# Altium integrated library STMicroelectronics STM32 F4.IntLib: 22 symbols (part 1 of 5)
Pins are listed as number, name and electrical type; pins without a type are passive.

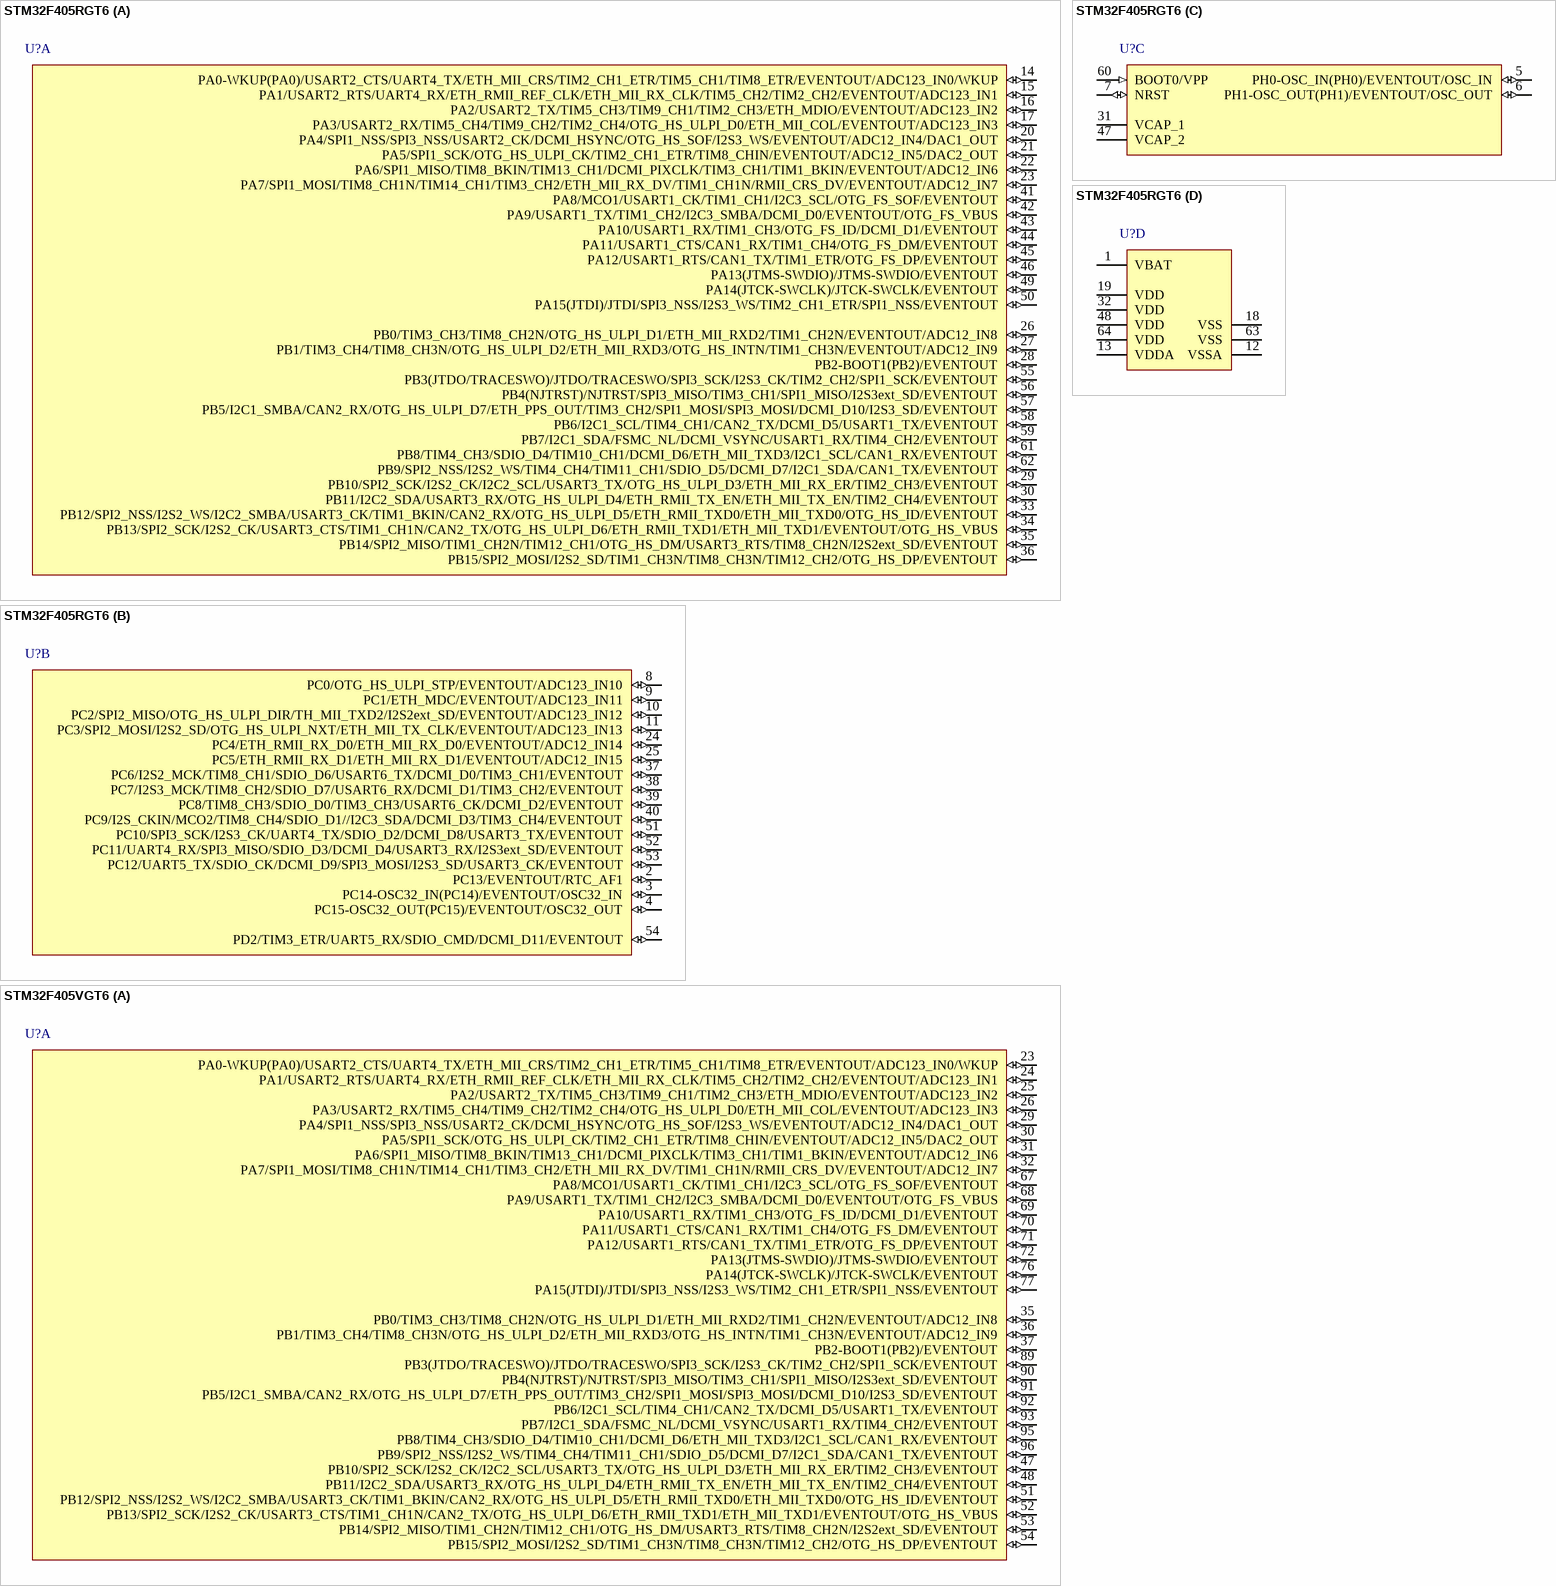
[diagram p0: symbols STM32F405RGT6 to STM32F405VGT6]

## STM32F405RGT6
designator U?
ARM Cortex-M4 32b MCU+FPU, 210DMIP, 1024 kB Flash, 192+4 kB RAM, 51 I/Os, 64-pin LQFP, -40 to +85°C, Tray; Internal RAM: 192kB; Operating Frequency (Processor Speed): 168MHz; A/D Converter: 16x12-bit; D/A Converter: 2x12-bit; 16-bit Timers (IC/OC/PWM): 12x16-bit(24/24/30); 32-bit Timer (IC/OC/PWM): 2x32-bit (8/8/8); Other Timer Functions: 2xWDG, RTC, 24-bit down counter; Serial Interface: 3xSPI/2xI2S/2xI2C/3xUSART(IrDa, ISO7816)/3xUART/1xUSB OTG FS/HS, 2xCAN/ SDIO; DatasheetVersion: rev2, Jan-2012; PackageVersion: 2012; PackageReference: TQFP64; PackageDescription: 64-Pin Low Profile Quad Flat Package, 10x10 mm Body, 0.5 mm Pitch; ComponentLink1Description: Manufacturer URL; ComponentLink1URL: http://www.st.com/; ComponentLink2Description: STM32F405/7 Datasheet; ComponentLink2URL: http://www.st.com/internet/com/TECHNICAL_RESOURCES/TECHNICAL_LITERATURE/DATASHEET/DM00037051.pdf; ComponentLink3Description: STM32F4 Web Page; ComponentLink3URL: http://www.st.com/internet/mcu/subclass/1521.jsp
footprint TQFP64_V (Thin QFP, 64-Leads, Body 10x10mm, Pitch 0.5mm, ST Recommended)
footprint TQFP64_N (Thin QFP, 64-Leads, Body 10x10mm, Pitch 0.5mm, IPC Medium Density)
footprint TQFP64_L (Thin QFP, 64-Leads, Body 10x10mm, Pitch 0.5mm, IPC High Density)
footprint TQFP64_M (Thin QFP, 64-Leads, Body 10x10mm, Pitch 0.5mm, IPC Low Density)
part A pins: 14 PA0-WKUP(PA0)/USART2_CTS/UART4_TX/ETH_MII_CRS/TIM2_CH1_ETR/TIM5_CH1/TIM8_ETR/EVENTOUT/ADC123_IN0/WKUP (io), 15 PA1/USART2_RTS/UART4_RX/ETH_RMII_REF_CLK/ETH_MII_RX_CLK/TIM5_CH2/TIM2_CH2/EVENTOUT/ADC123_IN1 (io), 16 PA2/USART2_TX/TIM5_CH3/TIM9_CH1/TIM2_CH3/ETH_MDIO/EVENTOUT/ADC123_IN2 (io), 17 PA3/USART2_RX/TIM5_CH4/TIM9_CH2/TIM2_CH4/OTG_HS_ULPI_D0/ETH_MII_COL/EVENTOUT/ADC123_IN3 (io), 20 PA4/SPI1_NSS/SPI3_NSS/USART2_CK/DCMI_HSYNC/OTG_HS_SOF/I2S3_WS/EVENTOUT/ADC12_IN4/DAC1_OUT (io), 21 PA5/SPI1_SCK/OTG_HS_ULPI_CK/TIM2_CH1_ETR/TIM8_CHIN/EVENTOUT/ADC12_IN5/DAC2_OUT (io), 22 PA6/SPI1_MISO/TIM8_BKIN/TIM13_CH1/DCMI_PIXCLK/TIM3_CH1/TIM1_BKIN/EVENTOUT/ADC12_IN6 (io), 23 PA7/SPI1_MOSI/TIM8_CH1N/TIM14_CH1/TIM3_CH2/ETH_MII_RX_DV/TIM1_CH1N/RMII_CRS_DV/EVENTOUT/ADC12_IN7 (io), 26 PB0/TIM3_CH3/TIM8_CH2N/OTG_HS_ULPI_D1/ETH_MII_RXD2/TIM1_CH2N/EVENTOUT/ADC12_IN8 (io), 27 PB1/TIM3_CH4/TIM8_CH3N/OTG_HS_ULPI_D2/ETH_MII_RXD3/OTG_HS_INTN/TIM1_CH3N/EVENTOUT/ADC12_IN9 (io), 28 PB2-BOOT1(PB2)/EVENTOUT (io), 29 PB10/SPI2_SCK/I2S2_CK/I2C2_SCL/USART3_TX/OTG_HS_ULPI_D3/ETH_MII_RX_ER/TIM2_CH3/EVENTOUT (io), 30 PB11/I2C2_SDA/USART3_RX/OTG_HS_ULPI_D4/ETH_RMII_TX_EN/ETH_MII_TX_EN/TIM2_CH4/EVENTOUT (io), 33 PB12/SPI2_NSS/I2S2_WS/I2C2_SMBA/USART3_CK/TIM1_BKIN/CAN2_RX/OTG_HS_ULPI_D5/ETH_RMII_TXD0/ETH_MII_TXD0/OTG_HS_ID/EVENTOUT (io), 34 PB13/SPI2_SCK/I2S2_CK/USART3_CTS/TIM1_CH1N/CAN2_TX/OTG_HS_ULPI_D6/ETH_RMII_TXD1/ETH_MII_TXD1/EVENTOUT/OTG_HS_VBUS (io), 35 PB14/SPI2_MISO/TIM1_CH2N/TIM12_CH1/OTG_HS_DM/USART3_RTS/TIM8_CH2N/I2S2ext_SD/EVENTOUT (io), 36 PB15/SPI2_MOSI/I2S2_SD/TIM1_CH3N/TIM8_CH3N/TIM12_CH2/OTG_HS_DP/EVENTOUT (io), 41 PA8/MCO1/USART1_CK/TIM1_CH1/I2C3_SCL/OTG_FS_SOF/EVENTOUT (io), 42 PA9/USART1_TX/TIM1_CH2/I2C3_SMBA/DCMI_D0/EVENTOUT/OTG_FS_VBUS (io), 43 PA10/USART1_RX/TIM1_CH3/OTG_FS_ID/DCMI_D1/EVENTOUT (io), 44 PA11/USART1_CTS/CAN1_RX/TIM1_CH4/OTG_FS_DM/EVENTOUT (io), 45 PA12/USART1_RTS/CAN1_TX/TIM1_ETR/OTG_FS_DP/EVENTOUT (io), 46 PA13(JTMS-SWDIO)/JTMS-SWDIO/EVENTOUT (io), 49 PA14(JTCK-SWCLK)/JTCK-SWCLK/EVENTOUT (io), 50 PA15(JTDI)/JTDI/SPI3_NSS/I2S3_WS/TIM2_CH1_ETR/SPI1_NSS/EVENTOUT (io), 55 PB3(JTDO/TRACESWO)/JTDO/TRACESWO/SPI3_SCK/I2S3_CK/TIM2_CH2/SPI1_SCK/EVENTOUT (io), 56 PB4(NJTRST)/NJTRST/SPI3_MISO/TIM3_CH1/SPI1_MISO/I2S3ext_SD/EVENTOUT (io), 57 PB5/I2C1_SMBA/CAN2_RX/OTG_HS_ULPI_D7/ETH_PPS_OUT/TIM3_CH2/SPI1_MOSI/SPI3_MOSI/DCMI_D10/I2S3_SD/EVENTOUT (io), 58 PB6/I2C1_SCL/TIM4_CH1/CAN2_TX/DCMI_D5/USART1_TX/EVENTOUT (io), 59 PB7/I2C1_SDA/FSMC_NL/DCMI_VSYNC/USART1_RX/TIM4_CH2/EVENTOUT (io), 61 PB8/TIM4_CH3/SDIO_D4/TIM10_CH1/DCMI_D6/ETH_MII_TXD3/I2C1_SCL/CAN1_RX/EVENTOUT (io), 62 PB9/SPI2_NSS/I2S2_WS/TIM4_CH4/TIM11_CH1/SDIO_D5/DCMI_D7/I2C1_SDA/CAN1_TX/EVENTOUT (io)
part B pins: 2 PC13/EVENTOUT/RTC_AF1 (io), 3 PC14-OSC32_IN(PC14)/EVENTOUT/OSC32_IN (io), 4 PC15-OSC32_OUT(PC15)/EVENTOUT/OSC32_OUT (io), 8 PC0/OTG_HS_ULPI_STP/EVENTOUT/ADC123_IN10 (io), 9 PC1/ETH_MDC/EVENTOUT/ADC123_IN11 (io), 10 PC2/SPI2_MISO/OTG_HS_ULPI_DIR/TH_MII_TXD2/I2S2ext_SD/EVENTOUT/ADC123_IN12 (io), 11 PC3/SPI2_MOSI/I2S2_SD/OTG_HS_ULPI_NXT/ETH_MII_TX_CLK/EVENTOUT/ADC123_IN13 (io), 24 PC4/ETH_RMII_RX_D0/ETH_MII_RX_D0/EVENTOUT/ADC12_IN14 (io), 25 PC5/ETH_RMII_RX_D1/ETH_MII_RX_D1/EVENTOUT/ADC12_IN15 (io), 37 PC6/I2S2_MCK/TIM8_CH1/SDIO_D6/USART6_TX/DCMI_D0/TIM3_CH1/EVENTOUT (io), 38 PC7/I2S3_MCK/TIM8_CH2/SDIO_D7/USART6_RX/DCMI_D1/TIM3_CH2/EVENTOUT (io), 39 PC8/TIM8_CH3/SDIO_D0/TIM3_CH3/USART6_CK/DCMI_D2/EVENTOUT (io), 40 PC9/I2S_CKIN/MCO2/TIM8_CH4/SDIO_D1//I2C3_SDA/DCMI_D3/TIM3_CH4/EVENTOUT (io), 51 PC10/SPI3_SCK/I2S3_CK/UART4_TX/SDIO_D2/DCMI_D8/USART3_TX/EVENTOUT (io), 52 PC11/UART4_RX/SPI3_MISO/SDIO_D3/DCMI_D4/USART3_RX/I2S3ext_SD/EVENTOUT (io), 53 PC12/UART5_TX/SDIO_CK/DCMI_D9/SPI3_MOSI/I2S3_SD/USART3_CK/EVENTOUT (io), 54 PD2/TIM3_ETR/UART5_RX/SDIO_CMD/DCMI_D11/EVENTOUT (io)
part C pins: 5 PH0-OSC_IN(PH0)/EVENTOUT/OSC_IN (io), 6 PH1-OSC_OUT(PH1)/EVENTOUT/OSC_OUT (io), 7 NRST (io), 31 VCAP_1 (power), 47 VCAP_2 (power), 60 BOOT0/VPP (in)
part D pins: 1 VBAT (power), 12 VSSA (power), 13 VDDA (power), 18 VSS (power), 19 VDD (power), 32 VDD (power), 48 VDD (power), 63 VSS (power), 64 VDD (power)

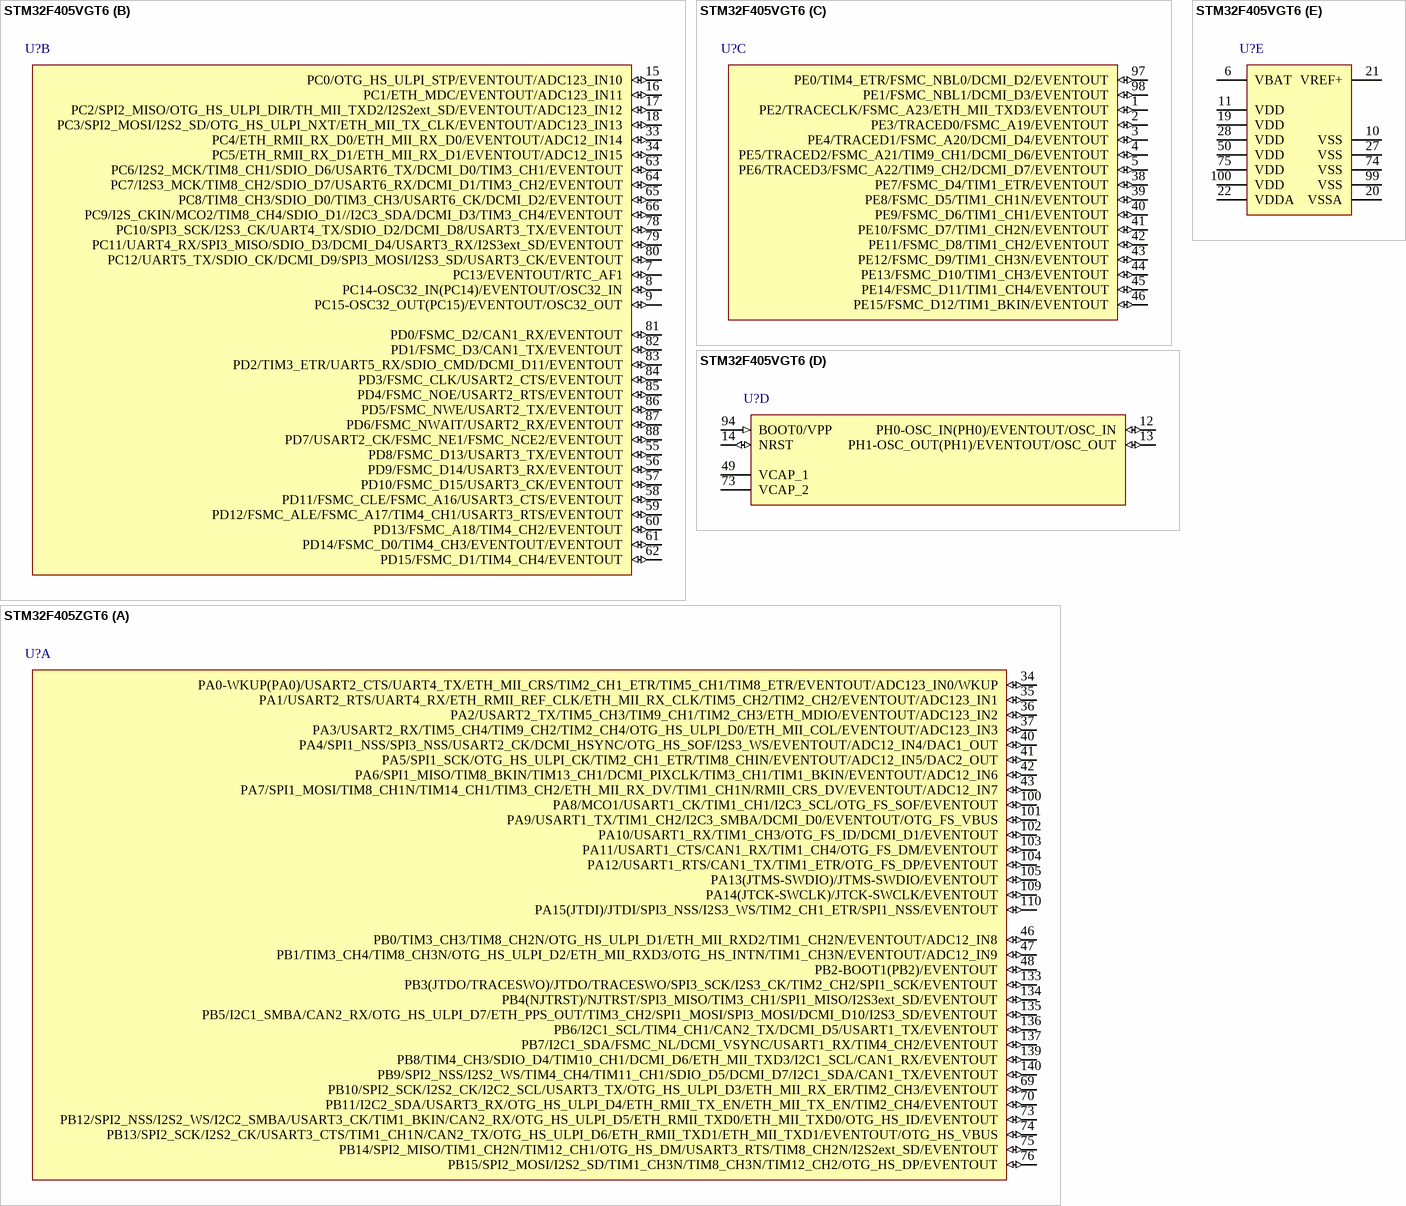
[diagram p1: symbols STM32F405VGT6 to STM32F405ZGT6]

## STM32F405VGT6
designator U?
ARM Cortex-M4 32b MCU+FPU, 210DMIP, 1024 kB Flash, 192+4 kB RAM, 82 I/Os, 100-pin LQFP, -40 to +85°C, Tray; Internal RAM: 192kB; Operating Frequency (Processor Speed): 168MHz; A/D Converter: 16x12-bit; D/A Converter: 2x12-bit; 16-bit Timers (IC/OC/PWM): 12x16-bit(24/24/30); 32-bit Timer (IC/OC/PWM): 2x32-bit (8/8/8); Other Timer Functions: 2xWDG, RTC, 24-bit down counter; Serial Interface: 3xSPI/2xI2S/2xI2C/3xUSART(IrDa, ISO7816)/3xUART/1xUSB OTG FS/HS, 2xCAN/ SDIO; DatasheetVersion: rev2, Jan-2012; PackageVersion: 2012; PackageReference: LQFP100; PackageDescription: 100-Pin Low Profile Quad Flat Package, 14x14 mm Body, 0.5 mm Pitch; ComponentLink1Description: Manufacturer URL; ComponentLink1URL: http://www.st.com/; ComponentLink2Description: STM32F405/7 Datasheet; ComponentLink2URL: http://www.st.com/internet/com/TECHNICAL_RESOURCES/TECHNICAL_LITERATURE/DATASHEET/DM00037051.pdf; ComponentLink3Description: STM32F4 Web Page; ComponentLink3URL: http://www.st.com/internet/mcu/subclass/1521.jsp
footprint LQFP100_V (Thin QFP, 100-Leads, Body 14x14mm, Pitch 0.5mm, ST Recommended)
footprint LQFP100_N (Thin QFP, 100-Leads, Body 14x14mm, Pitch 0.5mm, IPC Medium Density)
footprint LQFP100_L (Thin QFP, 100-Leads, Body 14x14mm, Pitch 0.5mm, IPC High Density)
footprint LQFP100_M (Thin QFP, 100-Leads, Body 14x14mm, Pitch 0.5mm, IPC Low Density)
part A pins: 23 PA0-WKUP(PA0)/USART2_CTS/UART4_TX/ETH_MII_CRS/TIM2_CH1_ETR/TIM5_CH1/TIM8_ETR/EVENTOUT/ADC123_IN0/WKUP (io), 24 PA1/USART2_RTS/UART4_RX/ETH_RMII_REF_CLK/ETH_MII_RX_CLK/TIM5_CH2/TIM2_CH2/EVENTOUT/ADC123_IN1 (io), 25 PA2/USART2_TX/TIM5_CH3/TIM9_CH1/TIM2_CH3/ETH_MDIO/EVENTOUT/ADC123_IN2 (io), 26 PA3/USART2_RX/TIM5_CH4/TIM9_CH2/TIM2_CH4/OTG_HS_ULPI_D0/ETH_MII_COL/EVENTOUT/ADC123_IN3 (io), 29 PA4/SPI1_NSS/SPI3_NSS/USART2_CK/DCMI_HSYNC/OTG_HS_SOF/I2S3_WS/EVENTOUT/ADC12_IN4/DAC1_OUT (io), 30 PA5/SPI1_SCK/OTG_HS_ULPI_CK/TIM2_CH1_ETR/TIM8_CHIN/EVENTOUT/ADC12_IN5/DAC2_OUT (io), 31 PA6/SPI1_MISO/TIM8_BKIN/TIM13_CH1/DCMI_PIXCLK/TIM3_CH1/TIM1_BKIN/EVENTOUT/ADC12_IN6 (io), 32 PA7/SPI1_MOSI/TIM8_CH1N/TIM14_CH1/TIM3_CH2/ETH_MII_RX_DV/TIM1_CH1N/RMII_CRS_DV/EVENTOUT/ADC12_IN7 (io), 35 PB0/TIM3_CH3/TIM8_CH2N/OTG_HS_ULPI_D1/ETH_MII_RXD2/TIM1_CH2N/EVENTOUT/ADC12_IN8 (io), 36 PB1/TIM3_CH4/TIM8_CH3N/OTG_HS_ULPI_D2/ETH_MII_RXD3/OTG_HS_INTN/TIM1_CH3N/EVENTOUT/ADC12_IN9 (io), 37 PB2-BOOT1(PB2)/EVENTOUT (io), 47 PB10/SPI2_SCK/I2S2_CK/I2C2_SCL/USART3_TX/OTG_HS_ULPI_D3/ETH_MII_RX_ER/TIM2_CH3/EVENTOUT (io), 48 PB11/I2C2_SDA/USART3_RX/OTG_HS_ULPI_D4/ETH_RMII_TX_EN/ETH_MII_TX_EN/TIM2_CH4/EVENTOUT (io), 51 PB12/SPI2_NSS/I2S2_WS/I2C2_SMBA/USART3_CK/TIM1_BKIN/CAN2_RX/OTG_HS_ULPI_D5/ETH_RMII_TXD0/ETH_MII_TXD0/OTG_HS_ID/EVENTOUT (io), 52 PB13/SPI2_SCK/I2S2_CK/USART3_CTS/TIM1_CH1N/CAN2_TX/OTG_HS_ULPI_D6/ETH_RMII_TXD1/ETH_MII_TXD1/EVENTOUT/OTG_HS_VBUS (io), 53 PB14/SPI2_MISO/TIM1_CH2N/TIM12_CH1/OTG_HS_DM/USART3_RTS/TIM8_CH2N/I2S2ext_SD/EVENTOUT (io), 54 PB15/SPI2_MOSI/I2S2_SD/TIM1_CH3N/TIM8_CH3N/TIM12_CH2/OTG_HS_DP/EVENTOUT (io), 67 PA8/MCO1/USART1_CK/TIM1_CH1/I2C3_SCL/OTG_FS_SOF/EVENTOUT (io), 68 PA9/USART1_TX/TIM1_CH2/I2C3_SMBA/DCMI_D0/EVENTOUT/OTG_FS_VBUS (io), 69 PA10/USART1_RX/TIM1_CH3/OTG_FS_ID/DCMI_D1/EVENTOUT (io), 70 PA11/USART1_CTS/CAN1_RX/TIM1_CH4/OTG_FS_DM/EVENTOUT (io), 71 PA12/USART1_RTS/CAN1_TX/TIM1_ETR/OTG_FS_DP/EVENTOUT (io), 72 PA13(JTMS-SWDIO)/JTMS-SWDIO/EVENTOUT (io), 76 PA14(JTCK-SWCLK)/JTCK-SWCLK/EVENTOUT (io), 77 PA15(JTDI)/JTDI/SPI3_NSS/I2S3_WS/TIM2_CH1_ETR/SPI1_NSS/EVENTOUT (io), 89 PB3(JTDO/TRACESWO)/JTDO/TRACESWO/SPI3_SCK/I2S3_CK/TIM2_CH2/SPI1_SCK/EVENTOUT (io), 90 PB4(NJTRST)/NJTRST/SPI3_MISO/TIM3_CH1/SPI1_MISO/I2S3ext_SD/EVENTOUT (io), 91 PB5/I2C1_SMBA/CAN2_RX/OTG_HS_ULPI_D7/ETH_PPS_OUT/TIM3_CH2/SPI1_MOSI/SPI3_MOSI/DCMI_D10/I2S3_SD/EVENTOUT (io), 92 PB6/I2C1_SCL/TIM4_CH1/CAN2_TX/DCMI_D5/USART1_TX/EVENTOUT (io), 93 PB7/I2C1_SDA/FSMC_NL/DCMI_VSYNC/USART1_RX/TIM4_CH2/EVENTOUT (io), 95 PB8/TIM4_CH3/SDIO_D4/TIM10_CH1/DCMI_D6/ETH_MII_TXD3/I2C1_SCL/CAN1_RX/EVENTOUT (io), 96 PB9/SPI2_NSS/I2S2_WS/TIM4_CH4/TIM11_CH1/SDIO_D5/DCMI_D7/I2C1_SDA/CAN1_TX/EVENTOUT (io)
part B pins: 7 PC13/EVENTOUT/RTC_AF1 (io), 8 PC14-OSC32_IN(PC14)/EVENTOUT/OSC32_IN (io), 9 PC15-OSC32_OUT(PC15)/EVENTOUT/OSC32_OUT (io), 15 PC0/OTG_HS_ULPI_STP/EVENTOUT/ADC123_IN10 (io), 16 PC1/ETH_MDC/EVENTOUT/ADC123_IN11 (io), 17 PC2/SPI2_MISO/OTG_HS_ULPI_DIR/TH_MII_TXD2/I2S2ext_SD/EVENTOUT/ADC123_IN12 (io), 18 PC3/SPI2_MOSI/I2S2_SD/OTG_HS_ULPI_NXT/ETH_MII_TX_CLK/EVENTOUT/ADC123_IN13 (io), 33 PC4/ETH_RMII_RX_D0/ETH_MII_RX_D0/EVENTOUT/ADC12_IN14 (io), 34 PC5/ETH_RMII_RX_D1/ETH_MII_RX_D1/EVENTOUT/ADC12_IN15 (io), 55 PD8/FSMC_D13/USART3_TX/EVENTOUT (io), 56 PD9/FSMC_D14/USART3_RX/EVENTOUT (io), 57 PD10/FSMC_D15/USART3_CK/EVENTOUT (io), 58 PD11/FSMC_CLE/FSMC_A16/USART3_CTS/EVENTOUT (io), 59 PD12/FSMC_ALE/FSMC_A17/TIM4_CH1/USART3_RTS/EVENTOUT (io), 60 PD13/FSMC_A18/TIM4_CH2/EVENTOUT (io), 61 PD14/FSMC_D0/TIM4_CH3/EVENTOUT/EVENTOUT (io), 62 PD15/FSMC_D1/TIM4_CH4/EVENTOUT (io), 63 PC6/I2S2_MCK/TIM8_CH1/SDIO_D6/USART6_TX/DCMI_D0/TIM3_CH1/EVENTOUT (io), 64 PC7/I2S3_MCK/TIM8_CH2/SDIO_D7/USART6_RX/DCMI_D1/TIM3_CH2/EVENTOUT (io), 65 PC8/TIM8_CH3/SDIO_D0/TIM3_CH3/USART6_CK/DCMI_D2/EVENTOUT (io), 66 PC9/I2S_CKIN/MCO2/TIM8_CH4/SDIO_D1//I2C3_SDA/DCMI_D3/TIM3_CH4/EVENTOUT (io), 78 PC10/SPI3_SCK/I2S3_CK/UART4_TX/SDIO_D2/DCMI_D8/USART3_TX/EVENTOUT (io), 79 PC11/UART4_RX/SPI3_MISO/SDIO_D3/DCMI_D4/USART3_RX/I2S3ext_SD/EVENTOUT (io), 80 PC12/UART5_TX/SDIO_CK/DCMI_D9/SPI3_MOSI/I2S3_SD/USART3_CK/EVENTOUT (io), 81 PD0/FSMC_D2/CAN1_RX/EVENTOUT (io), 82 PD1/FSMC_D3/CAN1_TX/EVENTOUT (io), 83 PD2/TIM3_ETR/UART5_RX/SDIO_CMD/DCMI_D11/EVENTOUT (io), 84 PD3/FSMC_CLK/USART2_CTS/EVENTOUT (io), 85 PD4/FSMC_NOE/USART2_RTS/EVENTOUT (io), 86 PD5/FSMC_NWE/USART2_TX/EVENTOUT (io), 87 PD6/FSMC_NWAIT/USART2_RX/EVENTOUT (io), 88 PD7/USART2_CK/FSMC_NE1/FSMC_NCE2/EVENTOUT (io)
part C pins: 1 PE2/TRACECLK/FSMC_A23/ETH_MII_TXD3/EVENTOUT (io), 2 PE3/TRACED0/FSMC_A19/EVENTOUT (io), 3 PE4/TRACED1/FSMC_A20/DCMI_D4/EVENTOUT (io), 4 PE5/TRACED2/FSMC_A21/TIM9_CH1/DCMI_D6/EVENTOUT (io), 5 PE6/TRACED3/FSMC_A22/TIM9_CH2/DCMI_D7/EVENTOUT (io), 38 PE7/FSMC_D4/TIM1_ETR/EVENTOUT (io), 39 PE8/FSMC_D5/TIM1_CH1N/EVENTOUT (io), 40 PE9/FSMC_D6/TIM1_CH1/EVENTOUT (io), 41 PE10/FSMC_D7/TIM1_CH2N/EVENTOUT (io), 42 PE11/FSMC_D8/TIM1_CH2/EVENTOUT (io), 43 PE12/FSMC_D9/TIM1_CH3N/EVENTOUT (io), 44 PE13/FSMC_D10/TIM1_CH3/EVENTOUT (io), 45 PE14/FSMC_D11/TIM1_CH4/EVENTOUT (io), 46 PE15/FSMC_D12/TIM1_BKIN/EVENTOUT (io), 97 PE0/TIM4_ETR/FSMC_NBL0/DCMI_D2/EVENTOUT (io), 98 PE1/FSMC_NBL1/DCMI_D3/EVENTOUT (io)
part D pins: 12 PH0-OSC_IN(PH0)/EVENTOUT/OSC_IN (io), 13 PH1-OSC_OUT(PH1)/EVENTOUT/OSC_OUT (io), 14 NRST (io), 49 VCAP_1 (power), 73 VCAP_2 (power), 94 BOOT0/VPP (in)
part E pins: 6 VBAT (power), 10 VSS (power), 11 VDD (power), 19 VDD (power), 20 VSSA (power), 21 VREF+ (power), 22 VDDA (power), 27 VSS (power), 28 VDD (power), 50 VDD (power), 74 VSS (power), 75 VDD (power), 99 VSS (power), 100 VDD (power)

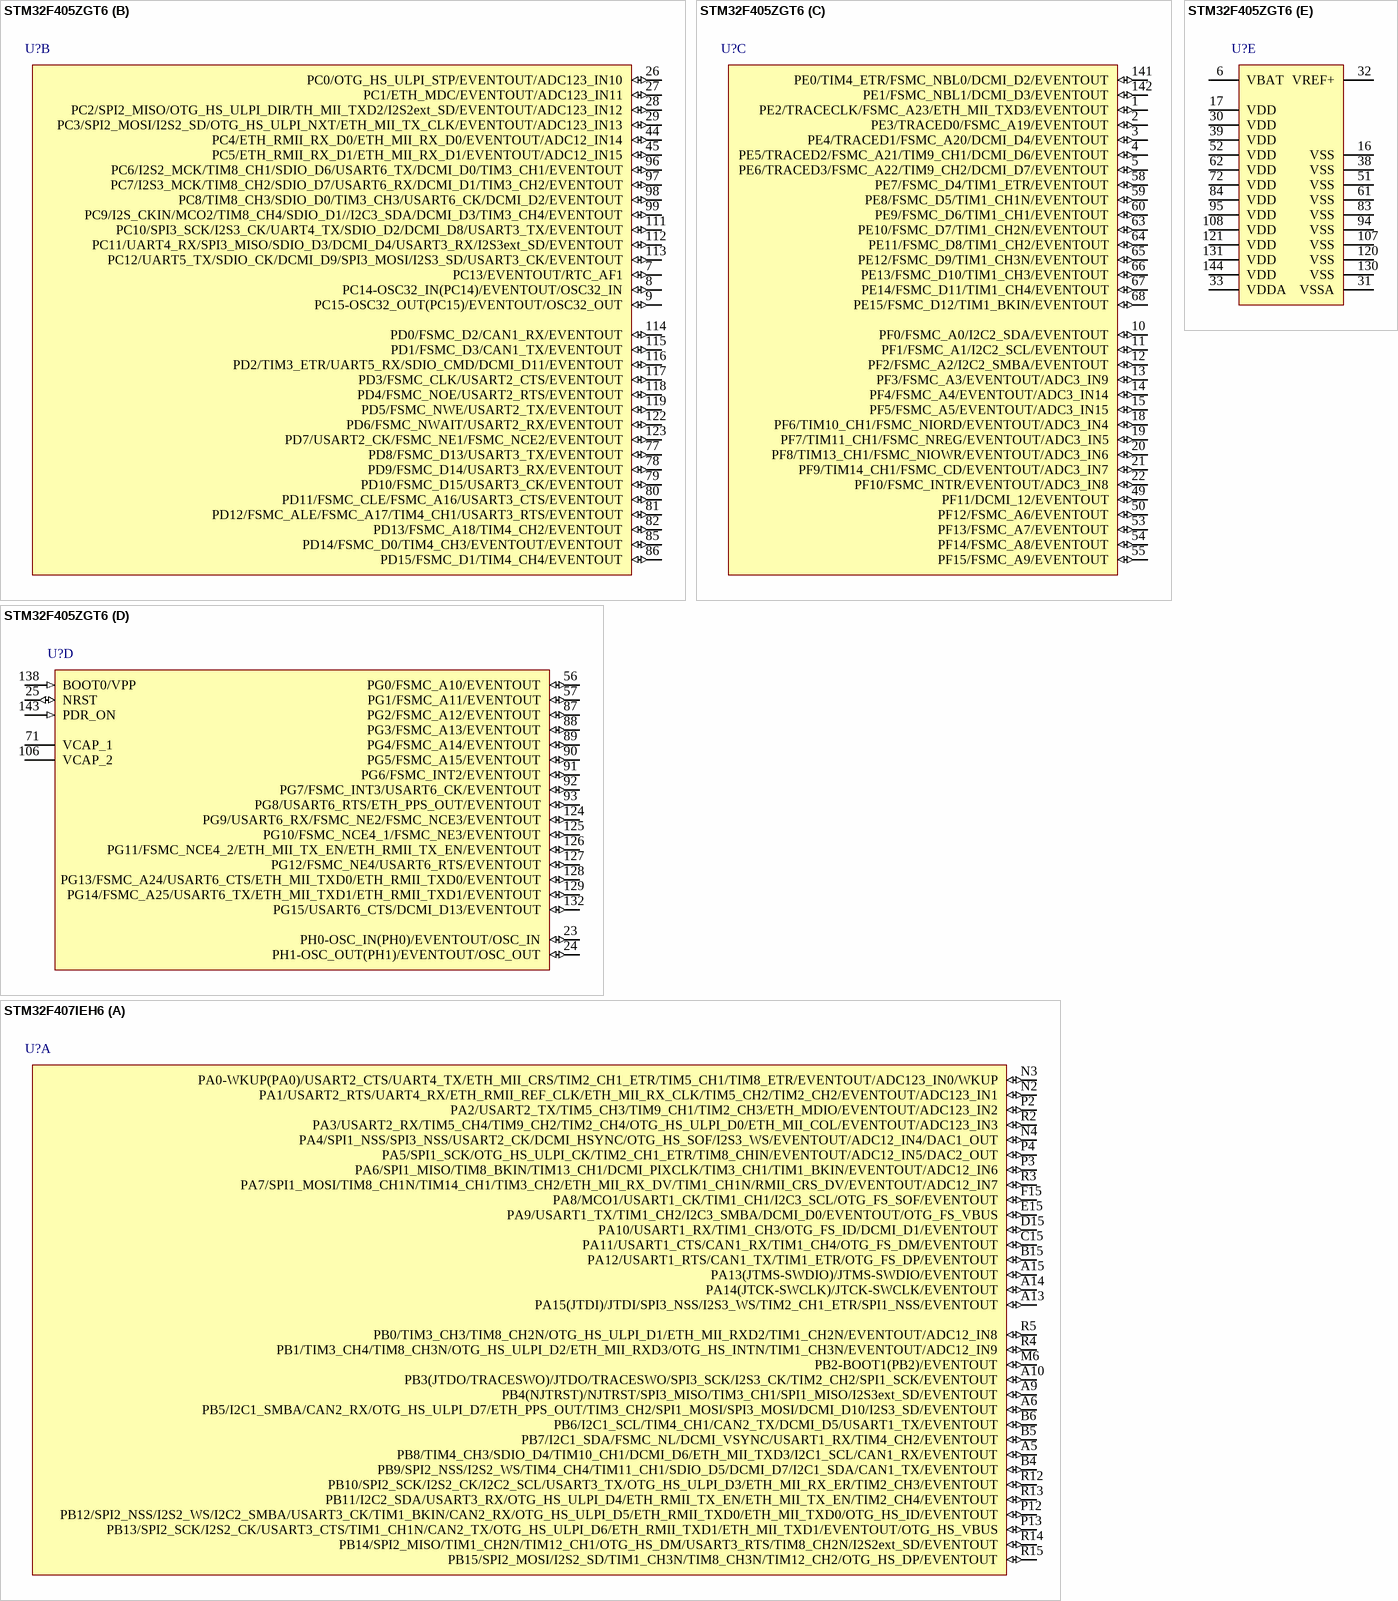
[diagram p2: symbols STM32F405ZGT6 to STM32F407IEH6]

## STM32F405ZGT6
designator U?
ARM Cortex-M4 32b MCU+FPU, 210DMIP, 1024 kB Flash, 192+4 kB RAM, 114 I/Os, 144-pin LQFP, -40 to +85°C, Tray; Internal RAM: 192kB; Operating Frequency (Processor Speed): 168MHz; A/D Converter: 24x12-bit; D/A Converter: 2x12-bit; 16-bit Timers (IC/OC/PWM): 12x16-bit(24/24/30); 32-bit Timer (IC/OC/PWM): 2x32-bit (8/8/8); Other Timer Functions: 2xWDG, RTC, 24-bit down counter; Serial Interface: 3xSPi/2xI2S/2xI2C/3xUSART/1xUSB OTG FS/HS, 2xCAN/ SDIO; DatasheetVersion: rev2, Jan-2012; PackageVersion: 2012; PackageReference: TQFP144; PackageDescription: 144-Pin Low Profile Quad Flat Package, 20x20 mm Body, 0.5 mm Pitch; ComponentLink1Description: Manufacturer URL; ComponentLink1URL: http://www.st.com/; ComponentLink2Description: STM32F405/7 Datasheet; ComponentLink2URL: http://www.st.com/internet/com/TECHNICAL_RESOURCES/TECHNICAL_LITERATURE/DATASHEET/DM00037051.pdf; ComponentLink3Description: STM32F4 Web Page; ComponentLink3URL: http://www.st.com/internet/mcu/subclass/1521.jsp
footprint TQFP144_V (Thin QFP, 144-Leads, Body 20x20mm, Pitch 0.5mm, ST Recommended)
footprint TQFP144_N (Thin QFP, 144-Leads, Body 20x20mm, Pitch 0.5mm, IPC Medium Density)
footprint TQFP144_L (Thin QFP, 144-Leads, Body 20x20mm, Pitch 0.5mm, IPC High Density)
footprint TQFP144_M (Thin QFP, 144-Leads, Body 20x20mm, Pitch 0.5mm, IPC Low Density)
part A pins: 34 PA0-WKUP(PA0)/USART2_CTS/UART4_TX/ETH_MII_CRS/TIM2_CH1_ETR/TIM5_CH1/TIM8_ETR/EVENTOUT/ADC123_IN0/WKUP (io), 35 PA1/USART2_RTS/UART4_RX/ETH_RMII_REF_CLK/ETH_MII_RX_CLK/TIM5_CH2/TIM2_CH2/EVENTOUT/ADC123_IN1 (io), 36 PA2/USART2_TX/TIM5_CH3/TIM9_CH1/TIM2_CH3/ETH_MDIO/EVENTOUT/ADC123_IN2 (io), 37 PA3/USART2_RX/TIM5_CH4/TIM9_CH2/TIM2_CH4/OTG_HS_ULPI_D0/ETH_MII_COL/EVENTOUT/ADC123_IN3 (io), 40 PA4/SPI1_NSS/SPI3_NSS/USART2_CK/DCMI_HSYNC/OTG_HS_SOF/I2S3_WS/EVENTOUT/ADC12_IN4/DAC1_OUT (io), 41 PA5/SPI1_SCK/OTG_HS_ULPI_CK/TIM2_CH1_ETR/TIM8_CHIN/EVENTOUT/ADC12_IN5/DAC2_OUT (io), 42 PA6/SPI1_MISO/TIM8_BKIN/TIM13_CH1/DCMI_PIXCLK/TIM3_CH1/TIM1_BKIN/EVENTOUT/ADC12_IN6 (io), 43 PA7/SPI1_MOSI/TIM8_CH1N/TIM14_CH1/TIM3_CH2/ETH_MII_RX_DV/TIM1_CH1N/RMII_CRS_DV/EVENTOUT/ADC12_IN7 (io), 46 PB0/TIM3_CH3/TIM8_CH2N/OTG_HS_ULPI_D1/ETH_MII_RXD2/TIM1_CH2N/EVENTOUT/ADC12_IN8 (io), 47 PB1/TIM3_CH4/TIM8_CH3N/OTG_HS_ULPI_D2/ETH_MII_RXD3/OTG_HS_INTN/TIM1_CH3N/EVENTOUT/ADC12_IN9 (io), 48 PB2-BOOT1(PB2)/EVENTOUT (io), 69 PB10/SPI2_SCK/I2S2_CK/I2C2_SCL/USART3_TX/OTG_HS_ULPI_D3/ETH_MII_RX_ER/TIM2_CH3/EVENTOUT (io), 70 PB11/I2C2_SDA/USART3_RX/OTG_HS_ULPI_D4/ETH_RMII_TX_EN/ETH_MII_TX_EN/TIM2_CH4/EVENTOUT (io), 73 PB12/SPI2_NSS/I2S2_WS/I2C2_SMBA/USART3_CK/TIM1_BKIN/CAN2_RX/OTG_HS_ULPI_D5/ETH_RMII_TXD0/ETH_MII_TXD0/OTG_HS_ID/EVENTOUT (io), 74 PB13/SPI2_SCK/I2S2_CK/USART3_CTS/TIM1_CH1N/CAN2_TX/OTG_HS_ULPI_D6/ETH_RMII_TXD1/ETH_MII_TXD1/EVENTOUT/OTG_HS_VBUS (io), 75 PB14/SPI2_MISO/TIM1_CH2N/TIM12_CH1/OTG_HS_DM/USART3_RTS/TIM8_CH2N/I2S2ext_SD/EVENTOUT (io), 76 PB15/SPI2_MOSI/I2S2_SD/TIM1_CH3N/TIM8_CH3N/TIM12_CH2/OTG_HS_DP/EVENTOUT (io), 100 PA8/MCO1/USART1_CK/TIM1_CH1/I2C3_SCL/OTG_FS_SOF/EVENTOUT (io), 101 PA9/USART1_TX/TIM1_CH2/I2C3_SMBA/DCMI_D0/EVENTOUT/OTG_FS_VBUS (io), 102 PA10/USART1_RX/TIM1_CH3/OTG_FS_ID/DCMI_D1/EVENTOUT (io), 103 PA11/USART1_CTS/CAN1_RX/TIM1_CH4/OTG_FS_DM/EVENTOUT (io), 104 PA12/USART1_RTS/CAN1_TX/TIM1_ETR/OTG_FS_DP/EVENTOUT (io), 105 PA13(JTMS-SWDIO)/JTMS-SWDIO/EVENTOUT (io), 109 PA14(JTCK-SWCLK)/JTCK-SWCLK/EVENTOUT (io), 110 PA15(JTDI)/JTDI/SPI3_NSS/I2S3_WS/TIM2_CH1_ETR/SPI1_NSS/EVENTOUT (io), 133 PB3(JTDO/TRACESWO)/JTDO/TRACESWO/SPI3_SCK/I2S3_CK/TIM2_CH2/SPI1_SCK/EVENTOUT (io), 134 PB4(NJTRST)/NJTRST/SPI3_MISO/TIM3_CH1/SPI1_MISO/I2S3ext_SD/EVENTOUT (io), 135 PB5/I2C1_SMBA/CAN2_RX/OTG_HS_ULPI_D7/ETH_PPS_OUT/TIM3_CH2/SPI1_MOSI/SPI3_MOSI/DCMI_D10/I2S3_SD/EVENTOUT (io), 136 PB6/I2C1_SCL/TIM4_CH1/CAN2_TX/DCMI_D5/USART1_TX/EVENTOUT (io), 137 PB7/I2C1_SDA/FSMC_NL/DCMI_VSYNC/USART1_RX/TIM4_CH2/EVENTOUT (io), 139 PB8/TIM4_CH3/SDIO_D4/TIM10_CH1/DCMI_D6/ETH_MII_TXD3/I2C1_SCL/CAN1_RX/EVENTOUT (io), 140 PB9/SPI2_NSS/I2S2_WS/TIM4_CH4/TIM11_CH1/SDIO_D5/DCMI_D7/I2C1_SDA/CAN1_TX/EVENTOUT (io)
part B pins: 7 PC13/EVENTOUT/RTC_AF1 (io), 8 PC14-OSC32_IN(PC14)/EVENTOUT/OSC32_IN (io), 9 PC15-OSC32_OUT(PC15)/EVENTOUT/OSC32_OUT (io), 26 PC0/OTG_HS_ULPI_STP/EVENTOUT/ADC123_IN10 (io), 27 PC1/ETH_MDC/EVENTOUT/ADC123_IN11 (io), 28 PC2/SPI2_MISO/OTG_HS_ULPI_DIR/TH_MII_TXD2/I2S2ext_SD/EVENTOUT/ADC123_IN12 (io), 29 PC3/SPI2_MOSI/I2S2_SD/OTG_HS_ULPI_NXT/ETH_MII_TX_CLK/EVENTOUT/ADC123_IN13 (io), 44 PC4/ETH_RMII_RX_D0/ETH_MII_RX_D0/EVENTOUT/ADC12_IN14 (io), 45 PC5/ETH_RMII_RX_D1/ETH_MII_RX_D1/EVENTOUT/ADC12_IN15 (io), 77 PD8/FSMC_D13/USART3_TX/EVENTOUT (io), 78 PD9/FSMC_D14/USART3_RX/EVENTOUT (io), 79 PD10/FSMC_D15/USART3_CK/EVENTOUT (io), 80 PD11/FSMC_CLE/FSMC_A16/USART3_CTS/EVENTOUT (io), 81 PD12/FSMC_ALE/FSMC_A17/TIM4_CH1/USART3_RTS/EVENTOUT (io), 82 PD13/FSMC_A18/TIM4_CH2/EVENTOUT (io), 85 PD14/FSMC_D0/TIM4_CH3/EVENTOUT/EVENTOUT (io), 86 PD15/FSMC_D1/TIM4_CH4/EVENTOUT (io), 96 PC6/I2S2_MCK/TIM8_CH1/SDIO_D6/USART6_TX/DCMI_D0/TIM3_CH1/EVENTOUT (io), 97 PC7/I2S3_MCK/TIM8_CH2/SDIO_D7/USART6_RX/DCMI_D1/TIM3_CH2/EVENTOUT (io), 98 PC8/TIM8_CH3/SDIO_D0/TIM3_CH3/USART6_CK/DCMI_D2/EVENTOUT (io), 99 PC9/I2S_CKIN/MCO2/TIM8_CH4/SDIO_D1//I2C3_SDA/DCMI_D3/TIM3_CH4/EVENTOUT (io), 111 PC10/SPI3_SCK/I2S3_CK/UART4_TX/SDIO_D2/DCMI_D8/USART3_TX/EVENTOUT (io), 112 PC11/UART4_RX/SPI3_MISO/SDIO_D3/DCMI_D4/USART3_RX/I2S3ext_SD/EVENTOUT (io), 113 PC12/UART5_TX/SDIO_CK/DCMI_D9/SPI3_MOSI/I2S3_SD/USART3_CK/EVENTOUT (io), 114 PD0/FSMC_D2/CAN1_RX/EVENTOUT (io), 115 PD1/FSMC_D3/CAN1_TX/EVENTOUT (io), 116 PD2/TIM3_ETR/UART5_RX/SDIO_CMD/DCMI_D11/EVENTOUT (io), 117 PD3/FSMC_CLK/USART2_CTS/EVENTOUT (io), 118 PD4/FSMC_NOE/USART2_RTS/EVENTOUT (io), 119 PD5/FSMC_NWE/USART2_TX/EVENTOUT (io), 122 PD6/FSMC_NWAIT/USART2_RX/EVENTOUT (io), 123 PD7/USART2_CK/FSMC_NE1/FSMC_NCE2/EVENTOUT (io)
part C pins: 1 PE2/TRACECLK/FSMC_A23/ETH_MII_TXD3/EVENTOUT (io), 2 PE3/TRACED0/FSMC_A19/EVENTOUT (io), 3 PE4/TRACED1/FSMC_A20/DCMI_D4/EVENTOUT (io), 4 PE5/TRACED2/FSMC_A21/TIM9_CH1/DCMI_D6/EVENTOUT (io), 5 PE6/TRACED3/FSMC_A22/TIM9_CH2/DCMI_D7/EVENTOUT (io), 10 PF0/FSMC_A0/I2C2_SDA/EVENTOUT (io), 11 PF1/FSMC_A1/I2C2_SCL/EVENTOUT (io), 12 PF2/FSMC_A2/I2C2_SMBA/EVENTOUT (io), 13 PF3/FSMC_A3/EVENTOUT/ADC3_IN9 (io), 14 PF4/FSMC_A4/EVENTOUT/ADC3_IN14 (io), 15 PF5/FSMC_A5/EVENTOUT/ADC3_IN15 (io), 18 PF6/TIM10_CH1/FSMC_NIORD/EVENTOUT/ADC3_IN4 (io), 19 PF7/TIM11_CH1/FSMC_NREG/EVENTOUT/ADC3_IN5 (io), 20 PF8/TIM13_CH1/FSMC_NIOWR/EVENTOUT/ADC3_IN6 (io), 21 PF9/TIM14_CH1/FSMC_CD/EVENTOUT/ADC3_IN7 (io), 22 PF10/FSMC_INTR/EVENTOUT/ADC3_IN8 (io), 49 PF11/DCMI_12/EVENTOUT (io), 50 PF12/FSMC_A6/EVENTOUT (io), 53 PF13/FSMC_A7/EVENTOUT (io), 54 PF14/FSMC_A8/EVENTOUT (io), 55 PF15/FSMC_A9/EVENTOUT (io), 58 PE7/FSMC_D4/TIM1_ETR/EVENTOUT (io), 59 PE8/FSMC_D5/TIM1_CH1N/EVENTOUT (io), 60 PE9/FSMC_D6/TIM1_CH1/EVENTOUT (io), 63 PE10/FSMC_D7/TIM1_CH2N/EVENTOUT (io), 64 PE11/FSMC_D8/TIM1_CH2/EVENTOUT (io), 65 PE12/FSMC_D9/TIM1_CH3N/EVENTOUT (io), 66 PE13/FSMC_D10/TIM1_CH3/EVENTOUT (io), 67 PE14/FSMC_D11/TIM1_CH4/EVENTOUT (io), 68 PE15/FSMC_D12/TIM1_BKIN/EVENTOUT (io), 141 PE0/TIM4_ETR/FSMC_NBL0/DCMI_D2/EVENTOUT (io), 142 PE1/FSMC_NBL1/DCMI_D3/EVENTOUT (io)
part D pins: 23 PH0-OSC_IN(PH0)/EVENTOUT/OSC_IN (io), 24 PH1-OSC_OUT(PH1)/EVENTOUT/OSC_OUT (io), 25 NRST (io), 56 PG0/FSMC_A10/EVENTOUT (io), 57 PG1/FSMC_A11/EVENTOUT (io), 71 VCAP_1 (power), 87 PG2/FSMC_A12/EVENTOUT (io), 88 PG3/FSMC_A13/EVENTOUT (io), 89 PG4/FSMC_A14/EVENTOUT (io), 90 PG5/FSMC_A15/EVENTOUT (io), 91 PG6/FSMC_INT2/EVENTOUT (io), 92 PG7/FSMC_INT3/USART6_CK/EVENTOUT (io), 93 PG8/USART6_RTS/ETH_PPS_OUT/EVENTOUT (io), 106 VCAP_2 (power), 124 PG9/USART6_RX/FSMC_NE2/FSMC_NCE3/EVENTOUT (io), 125 PG10/FSMC_NCE4_1/FSMC_NE3/EVENTOUT (io), 126 PG11/FSMC_NCE4_2/ETH_MII_TX_EN/ETH_RMII_TX_EN/EVENTOUT (io), 127 PG12/FSMC_NE4/USART6_RTS/EVENTOUT (io), 128 PG13/FSMC_A24/USART6_CTS/ETH_MII_TXD0/ETH_RMII_TXD0/EVENTOUT (io), 129 PG14/FSMC_A25/USART6_TX/ETH_MII_TXD1/ETH_RMII_TXD1/EVENTOUT (io), 132 PG15/USART6_CTS/DCMI_D13/EVENTOUT (io), 138 BOOT0/VPP (in), 143 PDR_ON (in)
part E pins: 6 VBAT (power), 16 VSS (power), 17 VDD (power), 30 VDD (power), 31 VSSA (power), 32 VREF+ (power), 33 VDDA (power), 38 VSS (power), 39 VDD (power), 51 VSS (power), 52 VDD (power), 61 VSS (power), 62 VDD (power), 72 VDD (power), 83 VSS (power), 84 VDD (power), 94 VSS (power), 95 VDD (power), 107 VSS (power), 108 VDD (power), 120 VSS (power), 121 VDD (power), 130 VSS (power), 131 VDD (power), 144 VDD (power)

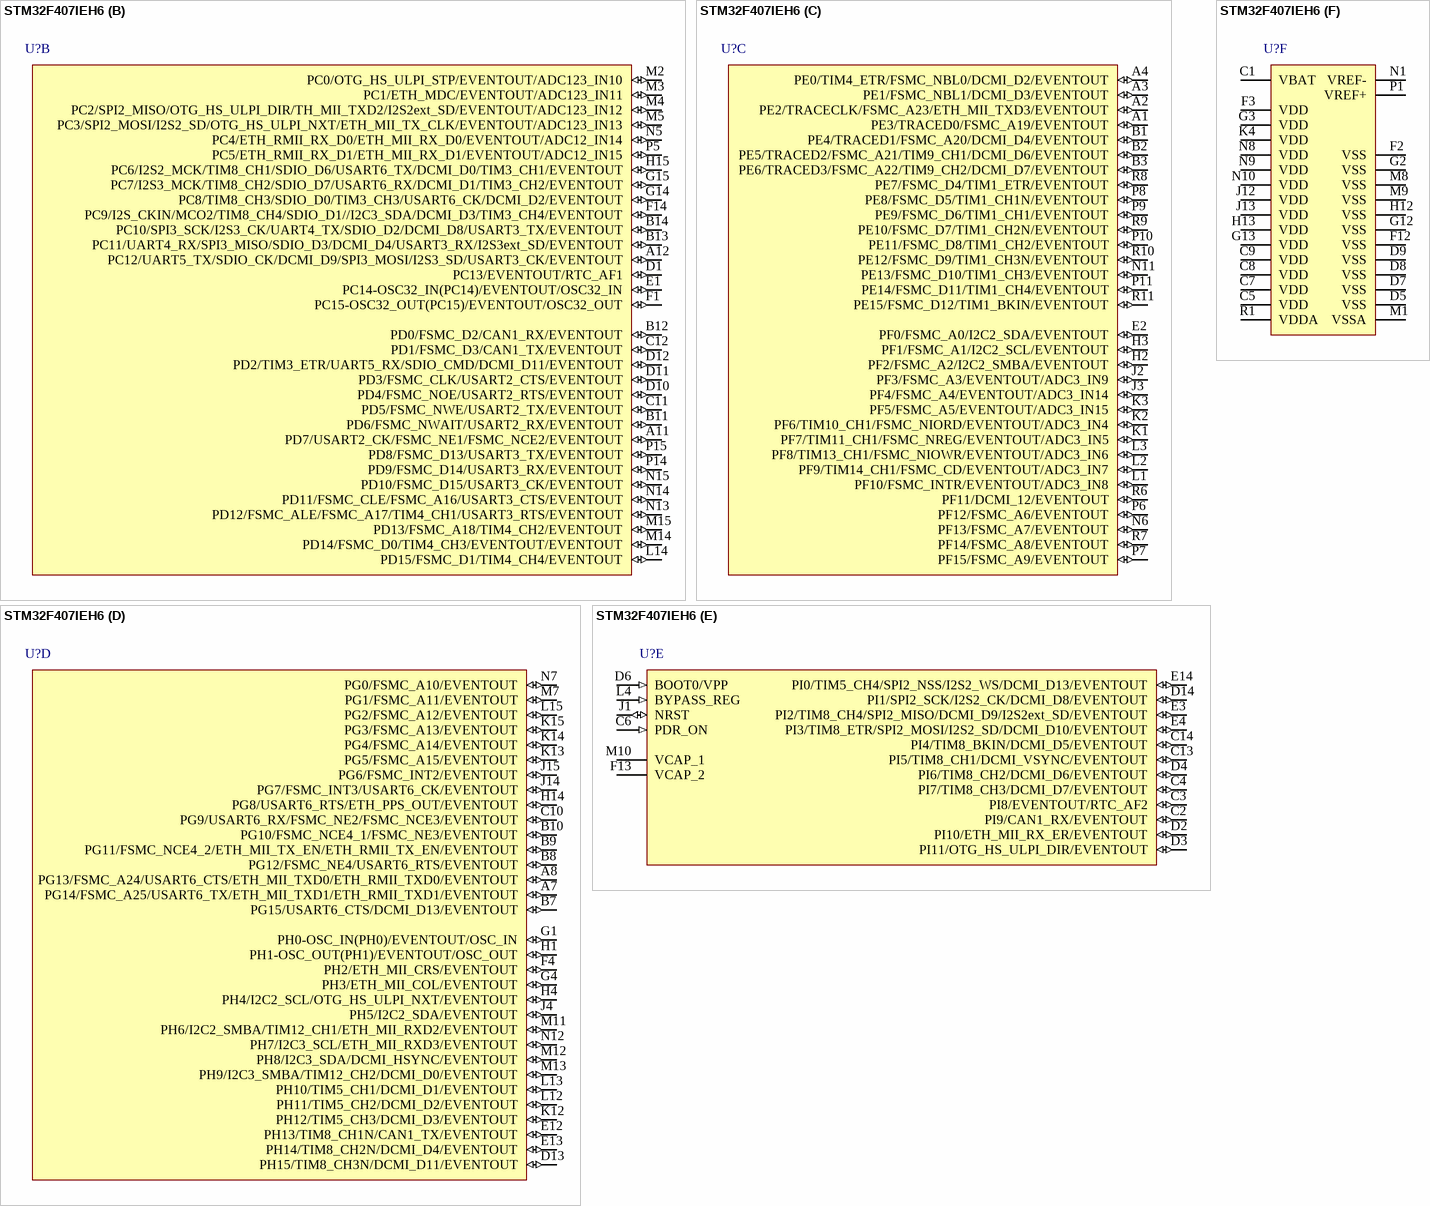
[diagram p3: symbol STM32F407IEH6]

## STM32F407IEH6
designator U?
ARM Cortex-M4 32b MCU+FPU, 210DMIP, 512 kB Flash, 192+4 kB RAM, Camera, 140 I/Os, 176-pin BGA, -40 to +85°C, Tray; Internal RAM: 192kB; Operating Frequency (Processor Speed): 168MHz; A/D Converter: 24x12-bit; D/A Converter: 2x12-bit; 16-bit Timers (IC/OC/PWM): 12x16-bit(24/24/30); 32-bit Timer (IC/OC/PWM): 2x32-bit (8/8/8); Other Timer Functions: 2xWDG, RTC, 24-bit down counter; Serial Interface: 3xSPI/2xI2S/2xI2C/3xUSART(IrDa, ISO7816)/3xUART/2xUSB OTG FS/HS, 2xCAN/Ethernet MAC10/100, SDIO; DatasheetVersion: rev2, Jan-2012; PackageVersion: 2012; PackageReference: UFBGA176+25; PackageDescription: 176+25-Ball Ultra Thin Fine Pitch Ball Grid Array, 10x10x0.6 mm Body, 0.65 mm Pitch; ComponentLink1Description: Manufacturer URL; ComponentLink1URL: http://www.st.com/; ComponentLink2Description: STM32F405/7 Datasheet; ComponentLink2URL: http://www.st.com/internet/com/TECHNICAL_RESOURCES/TECHNICAL_LITERATURE/DATASHEET/DM00037051.pdf; ComponentLink3Description: STM32F4 Web Page; ComponentLink3URL: http://www.st.com/internet/mcu/subclass/1521.jsp
footprint UFBG176 (BGA, 201-Leads, Body 10x10mm, Pitch 0.65mm)
part A pins: A5 PB8/TIM4_CH3/SDIO_D4/TIM10_CH1/DCMI_D6/ETH_MII_TXD3/I2C1_SCL/CAN1_RX/EVENTOUT (io), A6 PB5/I2C1_SMBA/CAN2_RX/OTG_HS_ULPI_D7/ETH_PPS_OUT/TIM3_CH2/SPI1_MOSI/SPI3_MOSI/DCMI_D10/I2S3_SD/EVENTOUT (io), A9 PB4(NJTRST)/NJTRST/SPI3_MISO/TIM3_CH1/SPI1_MISO/I2S3ext_SD/EVENTOUT (io), A10 PB3(JTDO/TRACESWO)/JTDO/TRACESWO/SPI3_SCK/I2S3_CK/TIM2_CH2/SPI1_SCK/EVENTOUT (io), A13 PA15(JTDI)/JTDI/SPI3_NSS/I2S3_WS/TIM2_CH1_ETR/SPI1_NSS/EVENTOUT (io), A14 PA14(JTCK-SWCLK)/JTCK-SWCLK/EVENTOUT (io), A15 PA13(JTMS-SWDIO)/JTMS-SWDIO/EVENTOUT (io), B4 PB9/SPI2_NSS/I2S2_WS/TIM4_CH4/TIM11_CH1/SDIO_D5/DCMI_D7/I2C1_SDA/CAN1_TX/EVENTOUT (io), B5 PB7/I2C1_SDA/FSMC_NL/DCMI_VSYNC/USART1_RX/TIM4_CH2/EVENTOUT (io), B6 PB6/I2C1_SCL/TIM4_CH1/CAN2_TX/DCMI_D5/USART1_TX/EVENTOUT (io), B15 PA12/USART1_RTS/CAN1_TX/TIM1_ETR/OTG_FS_DP/EVENTOUT (io), C15 PA11/USART1_CTS/CAN1_RX/TIM1_CH4/OTG_FS_DM/EVENTOUT (io), D15 PA10/USART1_RX/TIM1_CH3/OTG_FS_ID/DCMI_D1/EVENTOUT (io), E15 PA9/USART1_TX/TIM1_CH2/I2C3_SMBA/DCMI_D0/EVENTOUT/OTG_FS_VBUS (io), F15 PA8/MCO1/USART1_CK/TIM1_CH1/I2C3_SCL/OTG_FS_SOF/EVENTOUT (io), M6 PB2-BOOT1(PB2)/EVENTOUT (io), N2 PA1/USART2_RTS/UART4_RX/ETH_RMII_REF_CLK/ETH_MII_RX_CLK/TIM5_CH2/TIM2_CH2/EVENTOUT/ADC123_IN1 (io), N3 PA0-WKUP(PA0)/USART2_CTS/UART4_TX/ETH_MII_CRS/TIM2_CH1_ETR/TIM5_CH1/TIM8_ETR/EVENTOUT/ADC123_IN0/WKUP (io), N4 PA4/SPI1_NSS/SPI3_NSS/USART2_CK/DCMI_HSYNC/OTG_HS_SOF/I2S3_WS/EVENTOUT/ADC12_IN4/DAC1_OUT (io), P2 PA2/USART2_TX/TIM5_CH3/TIM9_CH1/TIM2_CH3/ETH_MDIO/EVENTOUT/ADC123_IN2 (io), P3 PA6/SPI1_MISO/TIM8_BKIN/TIM13_CH1/DCMI_PIXCLK/TIM3_CH1/TIM1_BKIN/EVENTOUT/ADC12_IN6 (io), P4 PA5/SPI1_SCK/OTG_HS_ULPI_CK/TIM2_CH1_ETR/TIM8_CHIN/EVENTOUT/ADC12_IN5/DAC2_OUT (io), P12 PB12/SPI2_NSS/I2S2_WS/I2C2_SMBA/USART3_CK/TIM1_BKIN/CAN2_RX/OTG_HS_ULPI_D5/ETH_RMII_TXD0/ETH_MII_TXD0/OTG_HS_ID/EVENTOUT (io), P13 PB13/SPI2_SCK/I2S2_CK/USART3_CTS/TIM1_CH1N/CAN2_TX/OTG_HS_ULPI_D6/ETH_RMII_TXD1/ETH_MII_TXD1/EVENTOUT/OTG_HS_VBUS (io), R2 PA3/USART2_RX/TIM5_CH4/TIM9_CH2/TIM2_CH4/OTG_HS_ULPI_D0/ETH_MII_COL/EVENTOUT/ADC123_IN3 (io), R3 PA7/SPI1_MOSI/TIM8_CH1N/TIM14_CH1/TIM3_CH2/ETH_MII_RX_DV/TIM1_CH1N/RMII_CRS_DV/EVENTOUT/ADC12_IN7 (io), R4 PB1/TIM3_CH4/TIM8_CH3N/OTG_HS_ULPI_D2/ETH_MII_RXD3/OTG_HS_INTN/TIM1_CH3N/EVENTOUT/ADC12_IN9 (io), R5 PB0/TIM3_CH3/TIM8_CH2N/OTG_HS_ULPI_D1/ETH_MII_RXD2/TIM1_CH2N/EVENTOUT/ADC12_IN8 (io), R12 PB10/SPI2_SCK/I2S2_CK/I2C2_SCL/USART3_TX/OTG_HS_ULPI_D3/ETH_MII_RX_ER/TIM2_CH3/EVENTOUT (io), R13 PB11/I2C2_SDA/USART3_RX/OTG_HS_ULPI_D4/ETH_RMII_TX_EN/ETH_MII_TX_EN/TIM2_CH4/EVENTOUT (io), R14 PB14/SPI2_MISO/TIM1_CH2N/TIM12_CH1/OTG_HS_DM/USART3_RTS/TIM8_CH2N/I2S2ext_SD/EVENTOUT (io), R15 PB15/SPI2_MOSI/I2S2_SD/TIM1_CH3N/TIM8_CH3N/TIM12_CH2/OTG_HS_DP/EVENTOUT (io)
part B pins: A11 PD7/USART2_CK/FSMC_NE1/FSMC_NCE2/EVENTOUT (io), A12 PC12/UART5_TX/SDIO_CK/DCMI_D9/SPI3_MOSI/I2S3_SD/USART3_CK/EVENTOUT (io), B11 PD6/FSMC_NWAIT/USART2_RX/EVENTOUT (io), B12 PD0/FSMC_D2/CAN1_RX/EVENTOUT (io), B13 PC11/UART4_RX/SPI3_MISO/SDIO_D3/DCMI_D4/USART3_RX/I2S3ext_SD/EVENTOUT (io), B14 PC10/SPI3_SCK/I2S3_CK/UART4_TX/SDIO_D2/DCMI_D8/USART3_TX/EVENTOUT (io), C11 PD5/FSMC_NWE/USART2_TX/EVENTOUT (io), C12 PD1/FSMC_D3/CAN1_TX/EVENTOUT (io), D1 PC13/EVENTOUT/RTC_AF1 (io), D10 PD4/FSMC_NOE/USART2_RTS/EVENTOUT (io), D11 PD3/FSMC_CLK/USART2_CTS/EVENTOUT (io), D12 PD2/TIM3_ETR/UART5_RX/SDIO_CMD/DCMI_D11/EVENTOUT (io), E1 PC14-OSC32_IN(PC14)/EVENTOUT/OSC32_IN (io), F1 PC15-OSC32_OUT(PC15)/EVENTOUT/OSC32_OUT (io), F14 PC9/I2S_CKIN/MCO2/TIM8_CH4/SDIO_D1//I2C3_SDA/DCMI_D3/TIM3_CH4/EVENTOUT (io), G14 PC8/TIM8_CH3/SDIO_D0/TIM3_CH3/USART6_CK/DCMI_D2/EVENTOUT (io), G15 PC7/I2S3_MCK/TIM8_CH2/SDIO_D7/USART6_RX/DCMI_D1/TIM3_CH2/EVENTOUT (io), H15 PC6/I2S2_MCK/TIM8_CH1/SDIO_D6/USART6_TX/DCMI_D0/TIM3_CH1/EVENTOUT (io), L14 PD15/FSMC_D1/TIM4_CH4/EVENTOUT (io), M2 PC0/OTG_HS_ULPI_STP/EVENTOUT/ADC123_IN10 (io), M3 PC1/ETH_MDC/EVENTOUT/ADC123_IN11 (io), M4 PC2/SPI2_MISO/OTG_HS_ULPI_DIR/TH_MII_TXD2/I2S2ext_SD/EVENTOUT/ADC123_IN12 (io), M5 PC3/SPI2_MOSI/I2S2_SD/OTG_HS_ULPI_NXT/ETH_MII_TX_CLK/EVENTOUT/ADC123_IN13 (io), M14 PD14/FSMC_D0/TIM4_CH3/EVENTOUT/EVENTOUT (io), M15 PD13/FSMC_A18/TIM4_CH2/EVENTOUT (io), N5 PC4/ETH_RMII_RX_D0/ETH_MII_RX_D0/EVENTOUT/ADC12_IN14 (io), N13 PD12/FSMC_ALE/FSMC_A17/TIM4_CH1/USART3_RTS/EVENTOUT (io), N14 PD11/FSMC_CLE/FSMC_A16/USART3_CTS/EVENTOUT (io), N15 PD10/FSMC_D15/USART3_CK/EVENTOUT (io), P5 PC5/ETH_RMII_RX_D1/ETH_MII_RX_D1/EVENTOUT/ADC12_IN15 (io), P14 PD9/FSMC_D14/USART3_RX/EVENTOUT (io), P15 PD8/FSMC_D13/USART3_TX/EVENTOUT (io)
part C pins: A1 PE3/TRACED0/FSMC_A19/EVENTOUT (io), A2 PE2/TRACECLK/FSMC_A23/ETH_MII_TXD3/EVENTOUT (io), A3 PE1/FSMC_NBL1/DCMI_D3/EVENTOUT (io), A4 PE0/TIM4_ETR/FSMC_NBL0/DCMI_D2/EVENTOUT (io), B1 PE4/TRACED1/FSMC_A20/DCMI_D4/EVENTOUT (io), B2 PE5/TRACED2/FSMC_A21/TIM9_CH1/DCMI_D6/EVENTOUT (io), B3 PE6/TRACED3/FSMC_A22/TIM9_CH2/DCMI_D7/EVENTOUT (io), E2 PF0/FSMC_A0/I2C2_SDA/EVENTOUT (io), H2 PF2/FSMC_A2/I2C2_SMBA/EVENTOUT (io), H3 PF1/FSMC_A1/I2C2_SCL/EVENTOUT (io), J2 PF3/FSMC_A3/EVENTOUT/ADC3_IN9 (io), J3 PF4/FSMC_A4/EVENTOUT/ADC3_IN14 (io), K1 PF7/TIM11_CH1/FSMC_NREG/EVENTOUT/ADC3_IN5 (io), K2 PF6/TIM10_CH1/FSMC_NIORD/EVENTOUT/ADC3_IN4 (io), K3 PF5/FSMC_A5/EVENTOUT/ADC3_IN15 (io), L1 PF10/FSMC_INTR/EVENTOUT/ADC3_IN8 (io), L2 PF9/TIM14_CH1/FSMC_CD/EVENTOUT/ADC3_IN7 (io), L3 PF8/TIM13_CH1/FSMC_NIOWR/EVENTOUT/ADC3_IN6 (io), N6 PF13/FSMC_A7/EVENTOUT (io), N11 PE13/FSMC_D10/TIM1_CH3/EVENTOUT (io), P6 PF12/FSMC_A6/EVENTOUT (io), P7 PF15/FSMC_A9/EVENTOUT (io), P8 PE8/FSMC_D5/TIM1_CH1N/EVENTOUT (io), P9 PE9/FSMC_D6/TIM1_CH1/EVENTOUT (io), P10 PE11/FSMC_D8/TIM1_CH2/EVENTOUT (io), P11 PE14/FSMC_D11/TIM1_CH4/EVENTOUT (io), R6 PF11/DCMI_12/EVENTOUT (io), R7 PF14/FSMC_A8/EVENTOUT (io), R8 PE7/FSMC_D4/TIM1_ETR/EVENTOUT (io), R9 PE10/FSMC_D7/TIM1_CH2N/EVENTOUT (io), R10 PE12/FSMC_D9/TIM1_CH3N/EVENTOUT (io), R11 PE15/FSMC_D12/TIM1_BKIN/EVENTOUT (io)
part D pins: A7 PG14/FSMC_A25/USART6_TX/ETH_MII_TXD1/ETH_RMII_TXD1/EVENTOUT (io), A8 PG13/FSMC_A24/USART6_CTS/ETH_MII_TXD0/ETH_RMII_TXD0/EVENTOUT (io), B7 PG15/USART6_CTS/DCMI_D13/EVENTOUT (io), B8 PG12/FSMC_NE4/USART6_RTS/EVENTOUT (io), B9 PG11/FSMC_NCE4_2/ETH_MII_TX_EN/ETH_RMII_TX_EN/EVENTOUT (io), B10 PG10/FSMC_NCE4_1/FSMC_NE3/EVENTOUT (io), C10 PG9/USART6_RX/FSMC_NE2/FSMC_NCE3/EVENTOUT (io), D13 PH15/TIM8_CH3N/DCMI_D11/EVENTOUT (io), E12 PH13/TIM8_CH1N/CAN1_TX/EVENTOUT (io), E13 PH14/TIM8_CH2N/DCMI_D4/EVENTOUT (io), F4 PH2/ETH_MII_CRS/EVENTOUT (io), G1 PH0-OSC_IN(PH0)/EVENTOUT/OSC_IN (io), G4 PH3/ETH_MII_COL/EVENTOUT (io), H1 PH1-OSC_OUT(PH1)/EVENTOUT/OSC_OUT (io), H4 PH4/I2C2_SCL/OTG_HS_ULPI_NXT/EVENTOUT (io), H14 PG8/USART6_RTS/ETH_PPS_OUT/EVENTOUT (io), J4 PH5/I2C2_SDA/EVENTOUT (io), J14 PG7/FSMC_INT3/USART6_CK/EVENTOUT (io), J15 PG6/FSMC_INT2/EVENTOUT (io), K12 PH12/TIM5_CH3/DCMI_D3/EVENTOUT (io), K13 PG5/FSMC_A15/EVENTOUT (io), K14 PG4/FSMC_A14/EVENTOUT (io), K15 PG3/FSMC_A13/EVENTOUT (io), L12 PH11/TIM5_CH2/DCMI_D2/EVENTOUT (io), L13 PH10/TIM5_CH1/DCMI_D1/EVENTOUT (io), L15 PG2/FSMC_A12/EVENTOUT (io), M7 PG1/FSMC_A11/EVENTOUT (io), M11 PH6/I2C2_SMBA/TIM12_CH1/ETH_MII_RXD2/EVENTOUT (io), M12 PH8/I2C3_SDA/DCMI_HSYNC/EVENTOUT (io), M13 PH9/I2C3_SMBA/TIM12_CH2/DCMI_D0/EVENTOUT (io), N7 PG0/FSMC_A10/EVENTOUT (io), N12 PH7/I2C3_SCL/ETH_MII_RXD3/EVENTOUT (io)
part E pins: C2 PI9/CAN1_RX/EVENTOUT (io), C3 PI8/EVENTOUT/RTC_AF2 (io), C4 PI7/TIM8_CH3/DCMI_D7/EVENTOUT (io), C6 PDR_ON (in), C13 PI5/TIM8_CH1/DCMI_VSYNC/EVENTOUT (io), C14 PI4/TIM8_BKIN/DCMI_D5/EVENTOUT (io), D2 PI10/ETH_MII_RX_ER/EVENTOUT (io), D3 PI11/OTG_HS_ULPI_DIR/EVENTOUT (io), D4 PI6/TIM8_CH2/DCMI_D6/EVENTOUT (io), D6 BOOT0/VPP (in), D14 PI1/SPI2_SCK/I2S2_CK/DCMI_D8/EVENTOUT (io), E3 PI2/TIM8_CH4/SPI2_MISO/DCMI_D9/I2S2ext_SD/EVENTOUT (io), E4 PI3/TIM8_ETR/SPI2_MOSI/I2S2_SD/DCMI_D10/EVENTOUT (io), E14 PI0/TIM5_CH4/SPI2_NSS/I2S2_WS/DCMI_D13/EVENTOUT (io), F13 VCAP_2 (power), J1 NRST (io), L4 BYPASS_REG (in), M10 VCAP_1 (power)
part F pins: C1 VBAT (power), C5 VDD (power), C7 VDD (power), C8 VDD (power), C9 VDD (power), D5 VSS (power), D7 VSS (power), D8 VSS (power), D9 VSS (power), F2 VSS (power), F3 VDD (power), F12 VSS (power), G2 VSS (power), G3 VDD (power), G12 VSS (power), G13 VDD (power), H12 VSS (power), H13 VDD (power), J12 VDD (power), J13 VDD (power), K4 VDD (power), M1 VSSA (power), M8 VSS (power), M9 VSS (power), N1 VREF- (power), N8 VDD (power), N9 VDD (power), N10 VDD (power), P1 VREF+ (power), R1 VDDA (power)

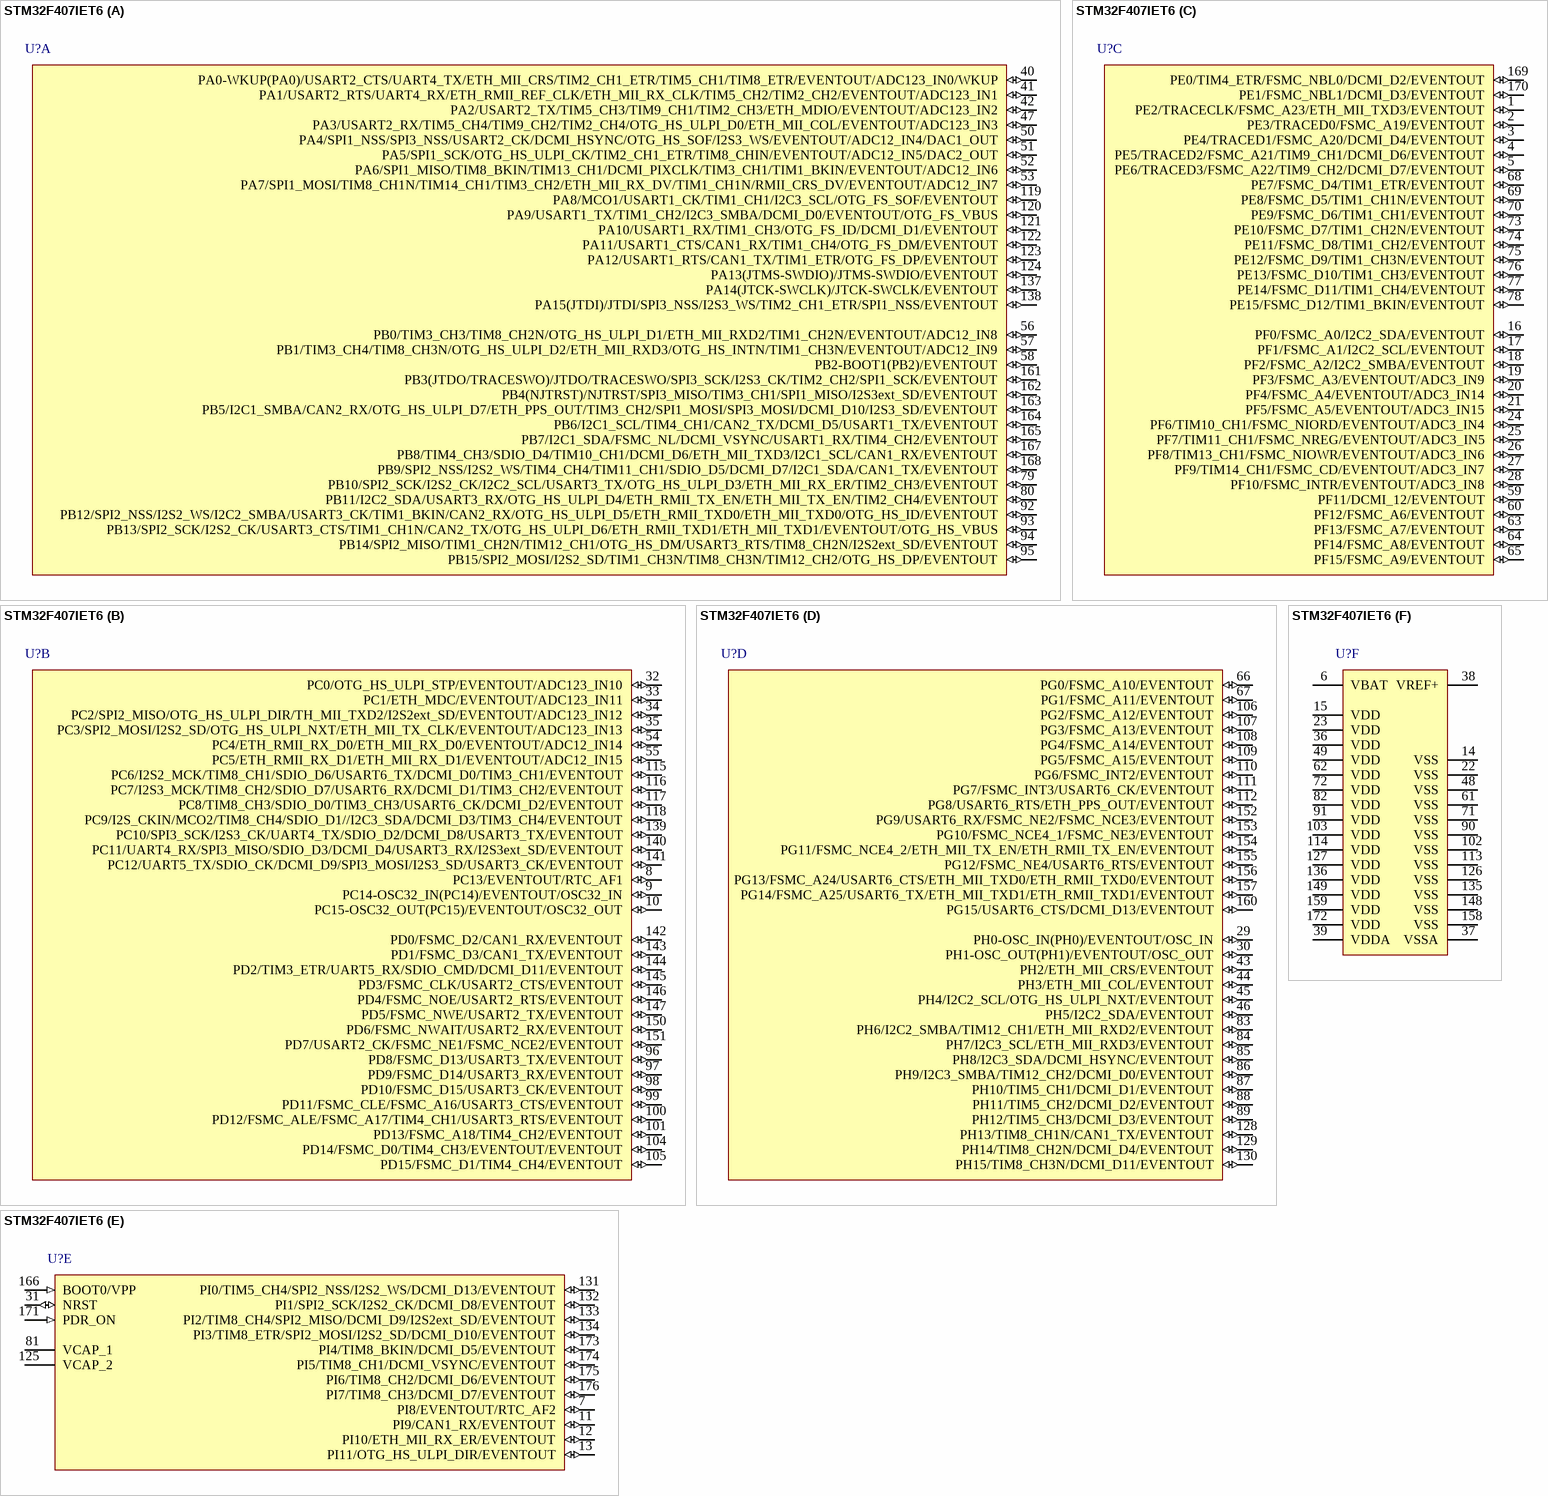
[diagram p4: symbol STM32F407IET6]

## STM32F407IET6
designator U?
ARM Cortex-M4 32b MCU+FPU, 210DMIP, 512 kB Flash, 192+4 kB RAM, Camera, 140 I/Os, 176-pin LQFP, -40 to +85°C, Tray; Internal RAM: 192kB; Operating Frequency (Processor Speed): 168MHz; A/D Converter: 24x12-bit; D/A Converter: 2x12-bit; 16-bit Timers (IC/OC/PWM): 12x16-bit(24/24/30); 32-bit Timer (IC/OC/PWM): 2x32-bit (8/8/8); Other Timer Functions: 2xWDG, RTC, 24-bit down counter; Serial Interface: 3xSPI/2xI2S/2xI2C/3xUSART(IrDa, ISO7816)/3xUART/2xUSB OTG FS/HS, 2xCAN/Ethernet MAC10/100, SDIO; DatasheetVersion: rev2, Jan-2012; PackageVersion: 2012; PackageReference: LQFP176; PackageDescription: 176-Pin Low Profile Quad Flat Package, 24 x 24 mm Body, 0.5 mm Pitch; ComponentLink1Description: Manufacturer URL; ComponentLink1URL: http://www.st.com/; ComponentLink2Description: STM32F405/7 Datasheet; ComponentLink2URL: http://www.st.com/internet/com/TECHNICAL_RESOURCES/TECHNICAL_LITERATURE/DATASHEET/DM00037051.pdf; ComponentLink3Description: STM32F4 Web Page; ComponentLink3URL: http://www.st.com/internet/mcu/subclass/1521.jsp
footprint LQFP176_N (Thin QFP, 176-Leads, Body 24x24mm, Pitch 0.5mm, IPC Medium Density)
footprint LQFP176_L (Thin QFP, 176-Leads, Body 24x24mm, Pitch 0.5mm, IPC High Density)
footprint LQFP176_M (Thin QFP, 176-Leads, Body 24x24mm, Pitch 0.5mm, IPC Low Density)
part A pins: 40 PA0-WKUP(PA0)/USART2_CTS/UART4_TX/ETH_MII_CRS/TIM2_CH1_ETR/TIM5_CH1/TIM8_ETR/EVENTOUT/ADC123_IN0/WKUP (io), 41 PA1/USART2_RTS/UART4_RX/ETH_RMII_REF_CLK/ETH_MII_RX_CLK/TIM5_CH2/TIM2_CH2/EVENTOUT/ADC123_IN1 (io), 42 PA2/USART2_TX/TIM5_CH3/TIM9_CH1/TIM2_CH3/ETH_MDIO/EVENTOUT/ADC123_IN2 (io), 47 PA3/USART2_RX/TIM5_CH4/TIM9_CH2/TIM2_CH4/OTG_HS_ULPI_D0/ETH_MII_COL/EVENTOUT/ADC123_IN3 (io), 50 PA4/SPI1_NSS/SPI3_NSS/USART2_CK/DCMI_HSYNC/OTG_HS_SOF/I2S3_WS/EVENTOUT/ADC12_IN4/DAC1_OUT (io), 51 PA5/SPI1_SCK/OTG_HS_ULPI_CK/TIM2_CH1_ETR/TIM8_CHIN/EVENTOUT/ADC12_IN5/DAC2_OUT (io), 52 PA6/SPI1_MISO/TIM8_BKIN/TIM13_CH1/DCMI_PIXCLK/TIM3_CH1/TIM1_BKIN/EVENTOUT/ADC12_IN6 (io), 53 PA7/SPI1_MOSI/TIM8_CH1N/TIM14_CH1/TIM3_CH2/ETH_MII_RX_DV/TIM1_CH1N/RMII_CRS_DV/EVENTOUT/ADC12_IN7 (io), 56 PB0/TIM3_CH3/TIM8_CH2N/OTG_HS_ULPI_D1/ETH_MII_RXD2/TIM1_CH2N/EVENTOUT/ADC12_IN8 (io), 57 PB1/TIM3_CH4/TIM8_CH3N/OTG_HS_ULPI_D2/ETH_MII_RXD3/OTG_HS_INTN/TIM1_CH3N/EVENTOUT/ADC12_IN9 (io), 58 PB2-BOOT1(PB2)/EVENTOUT (io), 79 PB10/SPI2_SCK/I2S2_CK/I2C2_SCL/USART3_TX/OTG_HS_ULPI_D3/ETH_MII_RX_ER/TIM2_CH3/EVENTOUT (io), 80 PB11/I2C2_SDA/USART3_RX/OTG_HS_ULPI_D4/ETH_RMII_TX_EN/ETH_MII_TX_EN/TIM2_CH4/EVENTOUT (io), 92 PB12/SPI2_NSS/I2S2_WS/I2C2_SMBA/USART3_CK/TIM1_BKIN/CAN2_RX/OTG_HS_ULPI_D5/ETH_RMII_TXD0/ETH_MII_TXD0/OTG_HS_ID/EVENTOUT (io), 93 PB13/SPI2_SCK/I2S2_CK/USART3_CTS/TIM1_CH1N/CAN2_TX/OTG_HS_ULPI_D6/ETH_RMII_TXD1/ETH_MII_TXD1/EVENTOUT/OTG_HS_VBUS (io), 94 PB14/SPI2_MISO/TIM1_CH2N/TIM12_CH1/OTG_HS_DM/USART3_RTS/TIM8_CH2N/I2S2ext_SD/EVENTOUT (io), 95 PB15/SPI2_MOSI/I2S2_SD/TIM1_CH3N/TIM8_CH3N/TIM12_CH2/OTG_HS_DP/EVENTOUT (io), 119 PA8/MCO1/USART1_CK/TIM1_CH1/I2C3_SCL/OTG_FS_SOF/EVENTOUT (io), 120 PA9/USART1_TX/TIM1_CH2/I2C3_SMBA/DCMI_D0/EVENTOUT/OTG_FS_VBUS (io), 121 PA10/USART1_RX/TIM1_CH3/OTG_FS_ID/DCMI_D1/EVENTOUT (io), 122 PA11/USART1_CTS/CAN1_RX/TIM1_CH4/OTG_FS_DM/EVENTOUT (io), 123 PA12/USART1_RTS/CAN1_TX/TIM1_ETR/OTG_FS_DP/EVENTOUT (io), 124 PA13(JTMS-SWDIO)/JTMS-SWDIO/EVENTOUT (io), 137 PA14(JTCK-SWCLK)/JTCK-SWCLK/EVENTOUT (io), 138 PA15(JTDI)/JTDI/SPI3_NSS/I2S3_WS/TIM2_CH1_ETR/SPI1_NSS/EVENTOUT (io), 161 PB3(JTDO/TRACESWO)/JTDO/TRACESWO/SPI3_SCK/I2S3_CK/TIM2_CH2/SPI1_SCK/EVENTOUT (io), 162 PB4(NJTRST)/NJTRST/SPI3_MISO/TIM3_CH1/SPI1_MISO/I2S3ext_SD/EVENTOUT (io), 163 PB5/I2C1_SMBA/CAN2_RX/OTG_HS_ULPI_D7/ETH_PPS_OUT/TIM3_CH2/SPI1_MOSI/SPI3_MOSI/DCMI_D10/I2S3_SD/EVENTOUT (io), 164 PB6/I2C1_SCL/TIM4_CH1/CAN2_TX/DCMI_D5/USART1_TX/EVENTOUT (io), 165 PB7/I2C1_SDA/FSMC_NL/DCMI_VSYNC/USART1_RX/TIM4_CH2/EVENTOUT (io), 167 PB8/TIM4_CH3/SDIO_D4/TIM10_CH1/DCMI_D6/ETH_MII_TXD3/I2C1_SCL/CAN1_RX/EVENTOUT (io), 168 PB9/SPI2_NSS/I2S2_WS/TIM4_CH4/TIM11_CH1/SDIO_D5/DCMI_D7/I2C1_SDA/CAN1_TX/EVENTOUT (io)
part B pins: 8 PC13/EVENTOUT/RTC_AF1 (io), 9 PC14-OSC32_IN(PC14)/EVENTOUT/OSC32_IN (io), 10 PC15-OSC32_OUT(PC15)/EVENTOUT/OSC32_OUT (io), 32 PC0/OTG_HS_ULPI_STP/EVENTOUT/ADC123_IN10 (io), 33 PC1/ETH_MDC/EVENTOUT/ADC123_IN11 (io), 34 PC2/SPI2_MISO/OTG_HS_ULPI_DIR/TH_MII_TXD2/I2S2ext_SD/EVENTOUT/ADC123_IN12 (io), 35 PC3/SPI2_MOSI/I2S2_SD/OTG_HS_ULPI_NXT/ETH_MII_TX_CLK/EVENTOUT/ADC123_IN13 (io), 54 PC4/ETH_RMII_RX_D0/ETH_MII_RX_D0/EVENTOUT/ADC12_IN14 (io), 55 PC5/ETH_RMII_RX_D1/ETH_MII_RX_D1/EVENTOUT/ADC12_IN15 (io), 96 PD8/FSMC_D13/USART3_TX/EVENTOUT (io), 97 PD9/FSMC_D14/USART3_RX/EVENTOUT (io), 98 PD10/FSMC_D15/USART3_CK/EVENTOUT (io), 99 PD11/FSMC_CLE/FSMC_A16/USART3_CTS/EVENTOUT (io), 100 PD12/FSMC_ALE/FSMC_A17/TIM4_CH1/USART3_RTS/EVENTOUT (io), 101 PD13/FSMC_A18/TIM4_CH2/EVENTOUT (io), 104 PD14/FSMC_D0/TIM4_CH3/EVENTOUT/EVENTOUT (io), 105 PD15/FSMC_D1/TIM4_CH4/EVENTOUT (io), 115 PC6/I2S2_MCK/TIM8_CH1/SDIO_D6/USART6_TX/DCMI_D0/TIM3_CH1/EVENTOUT (io), 116 PC7/I2S3_MCK/TIM8_CH2/SDIO_D7/USART6_RX/DCMI_D1/TIM3_CH2/EVENTOUT (io), 117 PC8/TIM8_CH3/SDIO_D0/TIM3_CH3/USART6_CK/DCMI_D2/EVENTOUT (io), 118 PC9/I2S_CKIN/MCO2/TIM8_CH4/SDIO_D1//I2C3_SDA/DCMI_D3/TIM3_CH4/EVENTOUT (io), 139 PC10/SPI3_SCK/I2S3_CK/UART4_TX/SDIO_D2/DCMI_D8/USART3_TX/EVENTOUT (io), 140 PC11/UART4_RX/SPI3_MISO/SDIO_D3/DCMI_D4/USART3_RX/I2S3ext_SD/EVENTOUT (io), 141 PC12/UART5_TX/SDIO_CK/DCMI_D9/SPI3_MOSI/I2S3_SD/USART3_CK/EVENTOUT (io), 142 PD0/FSMC_D2/CAN1_RX/EVENTOUT (io), 143 PD1/FSMC_D3/CAN1_TX/EVENTOUT (io), 144 PD2/TIM3_ETR/UART5_RX/SDIO_CMD/DCMI_D11/EVENTOUT (io), 145 PD3/FSMC_CLK/USART2_CTS/EVENTOUT (io), 146 PD4/FSMC_NOE/USART2_RTS/EVENTOUT (io), 147 PD5/FSMC_NWE/USART2_TX/EVENTOUT (io), 150 PD6/FSMC_NWAIT/USART2_RX/EVENTOUT (io), 151 PD7/USART2_CK/FSMC_NE1/FSMC_NCE2/EVENTOUT (io)
part C pins: 1 PE2/TRACECLK/FSMC_A23/ETH_MII_TXD3/EVENTOUT (io), 2 PE3/TRACED0/FSMC_A19/EVENTOUT (io), 3 PE4/TRACED1/FSMC_A20/DCMI_D4/EVENTOUT (io), 4 PE5/TRACED2/FSMC_A21/TIM9_CH1/DCMI_D6/EVENTOUT (io), 5 PE6/TRACED3/FSMC_A22/TIM9_CH2/DCMI_D7/EVENTOUT (io), 16 PF0/FSMC_A0/I2C2_SDA/EVENTOUT (io), 17 PF1/FSMC_A1/I2C2_SCL/EVENTOUT (io), 18 PF2/FSMC_A2/I2C2_SMBA/EVENTOUT (io), 19 PF3/FSMC_A3/EVENTOUT/ADC3_IN9 (io), 20 PF4/FSMC_A4/EVENTOUT/ADC3_IN14 (io), 21 PF5/FSMC_A5/EVENTOUT/ADC3_IN15 (io), 24 PF6/TIM10_CH1/FSMC_NIORD/EVENTOUT/ADC3_IN4 (io), 25 PF7/TIM11_CH1/FSMC_NREG/EVENTOUT/ADC3_IN5 (io), 26 PF8/TIM13_CH1/FSMC_NIOWR/EVENTOUT/ADC3_IN6 (io), 27 PF9/TIM14_CH1/FSMC_CD/EVENTOUT/ADC3_IN7 (io), 28 PF10/FSMC_INTR/EVENTOUT/ADC3_IN8 (io), 59 PF11/DCMI_12/EVENTOUT (io), 60 PF12/FSMC_A6/EVENTOUT (io), 63 PF13/FSMC_A7/EVENTOUT (io), 64 PF14/FSMC_A8/EVENTOUT (io), 65 PF15/FSMC_A9/EVENTOUT (io), 68 PE7/FSMC_D4/TIM1_ETR/EVENTOUT (io), 69 PE8/FSMC_D5/TIM1_CH1N/EVENTOUT (io), 70 PE9/FSMC_D6/TIM1_CH1/EVENTOUT (io), 73 PE10/FSMC_D7/TIM1_CH2N/EVENTOUT (io), 74 PE11/FSMC_D8/TIM1_CH2/EVENTOUT (io), 75 PE12/FSMC_D9/TIM1_CH3N/EVENTOUT (io), 76 PE13/FSMC_D10/TIM1_CH3/EVENTOUT (io), 77 PE14/FSMC_D11/TIM1_CH4/EVENTOUT (io), 78 PE15/FSMC_D12/TIM1_BKIN/EVENTOUT (io), 169 PE0/TIM4_ETR/FSMC_NBL0/DCMI_D2/EVENTOUT (io), 170 PE1/FSMC_NBL1/DCMI_D3/EVENTOUT (io)
part D pins: 29 PH0-OSC_IN(PH0)/EVENTOUT/OSC_IN (io), 30 PH1-OSC_OUT(PH1)/EVENTOUT/OSC_OUT (io), 43 PH2/ETH_MII_CRS/EVENTOUT (io), 44 PH3/ETH_MII_COL/EVENTOUT (io), 45 PH4/I2C2_SCL/OTG_HS_ULPI_NXT/EVENTOUT (io), 46 PH5/I2C2_SDA/EVENTOUT (io), 66 PG0/FSMC_A10/EVENTOUT (io), 67 PG1/FSMC_A11/EVENTOUT (io), 83 PH6/I2C2_SMBA/TIM12_CH1/ETH_MII_RXD2/EVENTOUT (io), 84 PH7/I2C3_SCL/ETH_MII_RXD3/EVENTOUT (io), 85 PH8/I2C3_SDA/DCMI_HSYNC/EVENTOUT (io), 86 PH9/I2C3_SMBA/TIM12_CH2/DCMI_D0/EVENTOUT (io), 87 PH10/TIM5_CH1/DCMI_D1/EVENTOUT (io), 88 PH11/TIM5_CH2/DCMI_D2/EVENTOUT (io), 89 PH12/TIM5_CH3/DCMI_D3/EVENTOUT (io), 106 PG2/FSMC_A12/EVENTOUT (io), 107 PG3/FSMC_A13/EVENTOUT (io), 108 PG4/FSMC_A14/EVENTOUT (io), 109 PG5/FSMC_A15/EVENTOUT (io), 110 PG6/FSMC_INT2/EVENTOUT (io), 111 PG7/FSMC_INT3/USART6_CK/EVENTOUT (io), 112 PG8/USART6_RTS/ETH_PPS_OUT/EVENTOUT (io), 128 PH13/TIM8_CH1N/CAN1_TX/EVENTOUT (io), 129 PH14/TIM8_CH2N/DCMI_D4/EVENTOUT (io), 130 PH15/TIM8_CH3N/DCMI_D11/EVENTOUT (io), 152 PG9/USART6_RX/FSMC_NE2/FSMC_NCE3/EVENTOUT (io), 153 PG10/FSMC_NCE4_1/FSMC_NE3/EVENTOUT (io), 154 PG11/FSMC_NCE4_2/ETH_MII_TX_EN/ETH_RMII_TX_EN/EVENTOUT (io), 155 PG12/FSMC_NE4/USART6_RTS/EVENTOUT (io), 156 PG13/FSMC_A24/USART6_CTS/ETH_MII_TXD0/ETH_RMII_TXD0/EVENTOUT (io), 157 PG14/FSMC_A25/USART6_TX/ETH_MII_TXD1/ETH_RMII_TXD1/EVENTOUT (io), 160 PG15/USART6_CTS/DCMI_D13/EVENTOUT (io)
part E pins: 7 PI8/EVENTOUT/RTC_AF2 (io), 11 PI9/CAN1_RX/EVENTOUT (io), 12 PI10/ETH_MII_RX_ER/EVENTOUT (io), 13 PI11/OTG_HS_ULPI_DIR/EVENTOUT (io), 31 NRST (io), 81 VCAP_1 (power), 125 VCAP_2 (power), 131 PI0/TIM5_CH4/SPI2_NSS/I2S2_WS/DCMI_D13/EVENTOUT (io), 132 PI1/SPI2_SCK/I2S2_CK/DCMI_D8/EVENTOUT (io), 133 PI2/TIM8_CH4/SPI2_MISO/DCMI_D9/I2S2ext_SD/EVENTOUT (io), 134 PI3/TIM8_ETR/SPI2_MOSI/I2S2_SD/DCMI_D10/EVENTOUT (io), 166 BOOT0/VPP (in), 171 PDR_ON (in), 173 PI4/TIM8_BKIN/DCMI_D5/EVENTOUT (io), 174 PI5/TIM8_CH1/DCMI_VSYNC/EVENTOUT (io), 175 PI6/TIM8_CH2/DCMI_D6/EVENTOUT (io), 176 PI7/TIM8_CH3/DCMI_D7/EVENTOUT (io)
part F pins: 6 VBAT (power), 14 VSS (power), 15 VDD (power), 22 VSS (power), 23 VDD (power), 36 VDD (power), 37 VSSA (power), 38 VREF+ (power), 39 VDDA (power), 48 VSS (power), 49 VDD (power), 61 VSS (power), 62 VDD (power), 71 VSS (power), 72 VDD (power), 82 VDD (power), 90 VSS (power), 91 VDD (power), 102 VSS (power), 103 VDD (power), 113 VSS (power), 114 VDD (power), 126 VSS (power), 127 VDD (power), 135 VSS (power), 136 VDD (power), 148 VSS (power), 149 VDD (power), 158 VSS (power), 159 VDD (power), 172 VDD (power)

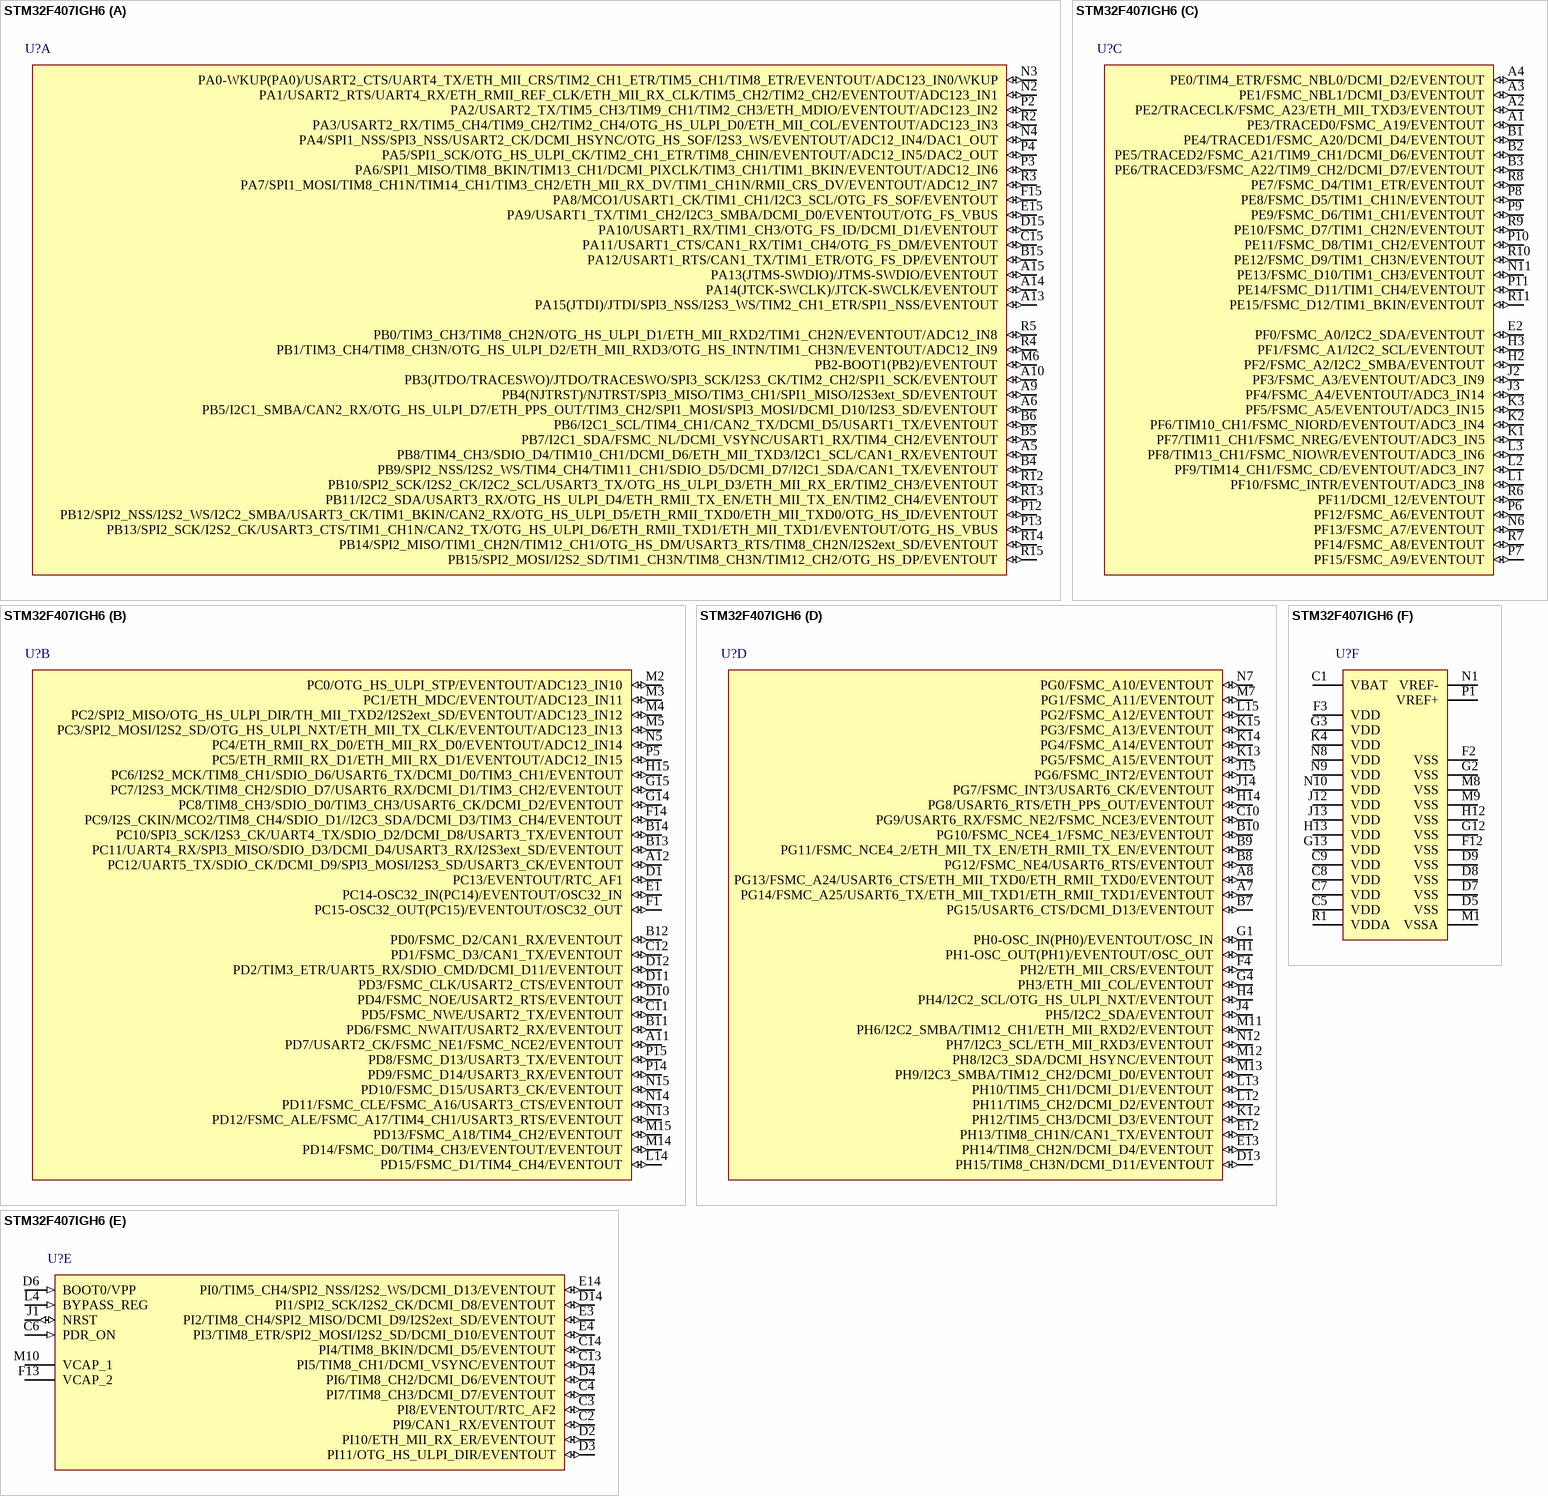
[diagram p5: symbol STM32F407IGH6]